# Altium integrated library Motorola Microcontroller 32-Bit.IntLib: 337 symbols (part 24 of 29)
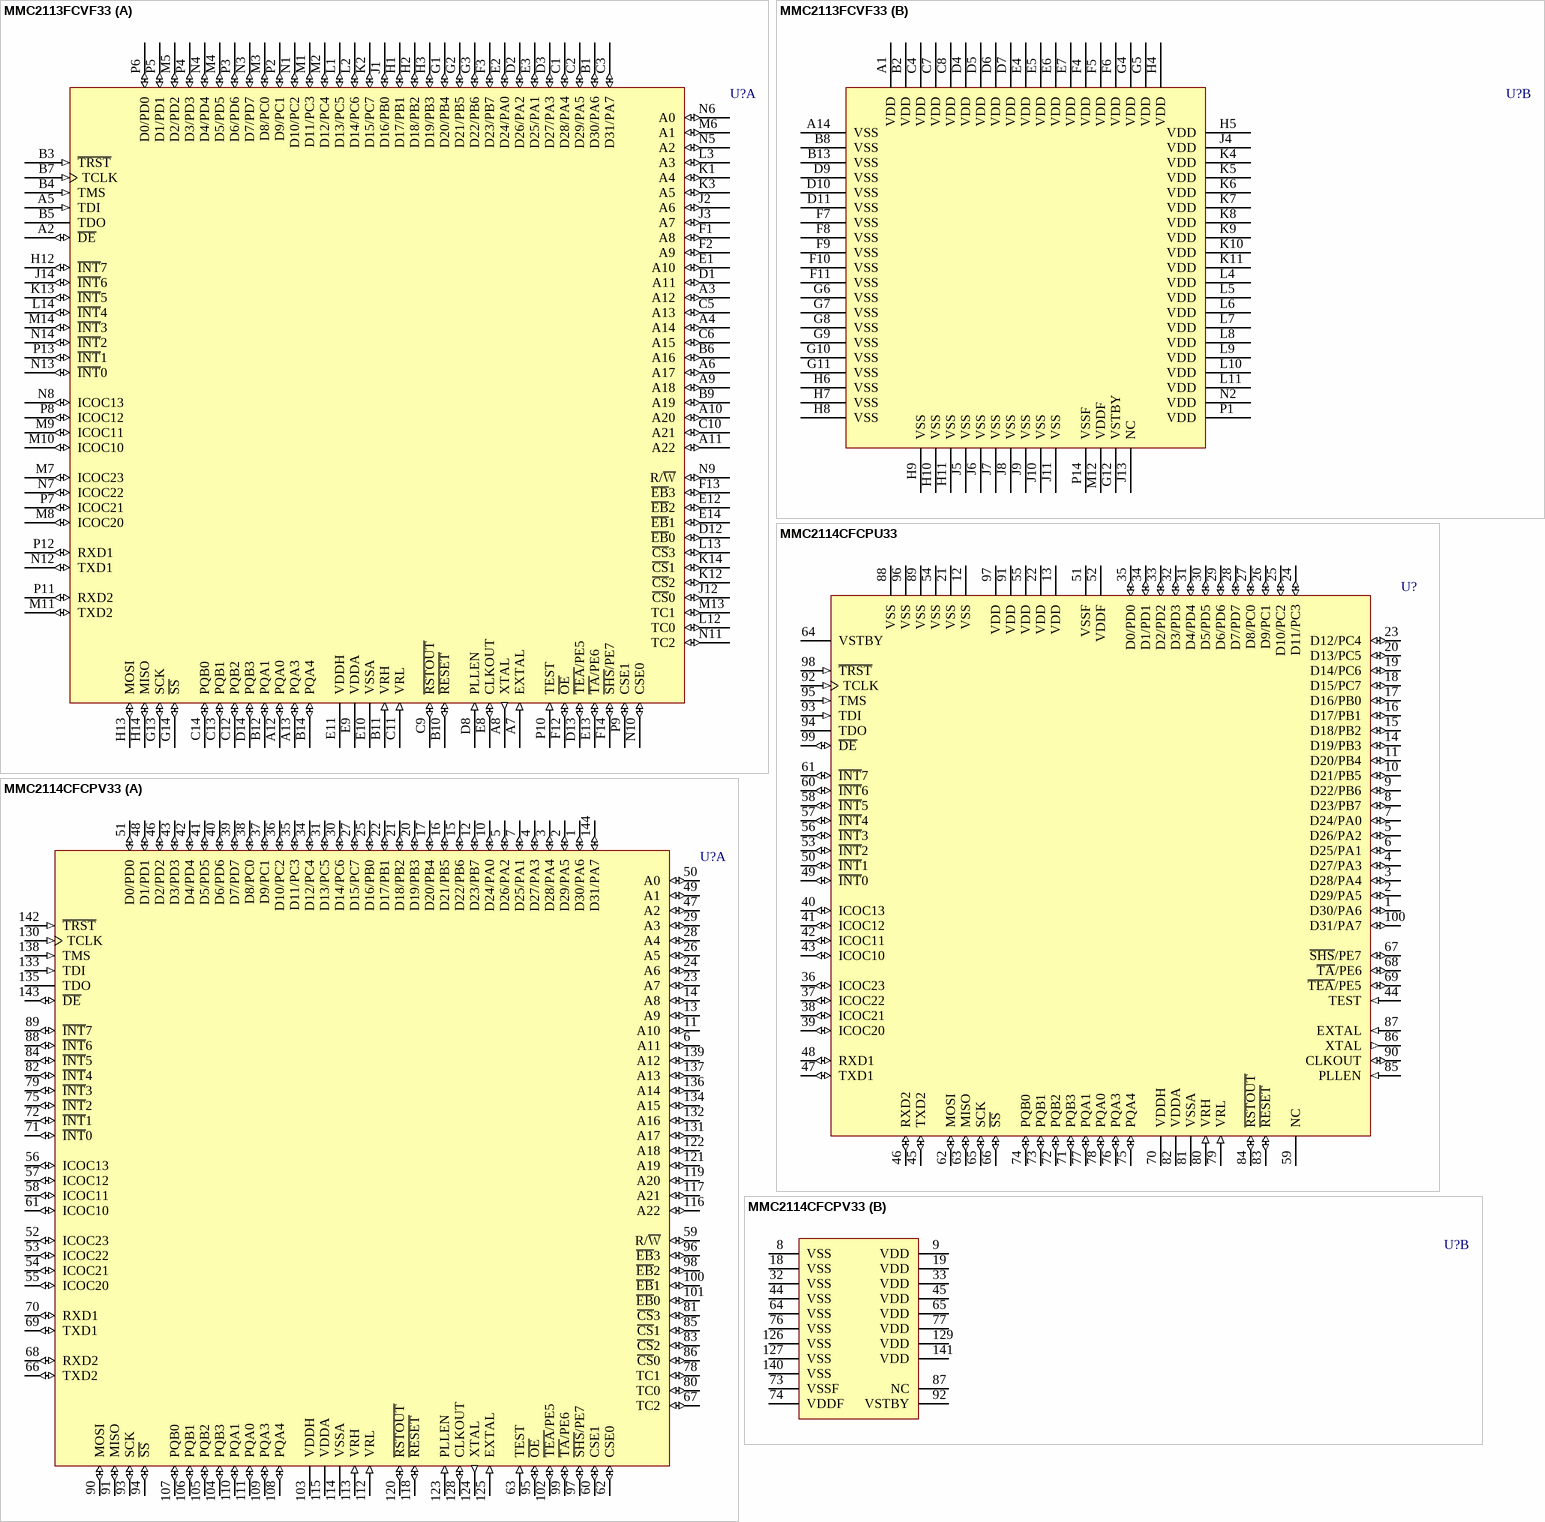
[diagram p262: symbols MMC2113FCVF33 to MMC2114CFCPV33]

## MMC2114CFCPU33
designator U?
32-Bit Microcontroller; Published: 21-Mar-2003; LatestRevisionDate: 13-Apr-2006; LatestRevisionNote: IPC-7351 Footprint Added.; DatasheetVersion: 18-Apr-2002; PackageVersion: rev3.1, Nov-2000; PackageReference: 983-02; Publisher: Altium Limited; PackageDescription: 100-Pin Shrink Quad Flat Pack 0.5 mm Pitch; Code_IPC: SQFP50P1600X1600-100; ComponentLink1Description: Manufacturer Link; ComponentLink1URL: http://www.freescale.com/; ComponentLink2Description: Datasheet; ComponentLink2URL: http://www.freescale.com/files/32bit/doc/ref_manual/MMC2114.pdf
footprint 983-02_N (Shrink QFP, 100-Leads, Body 14x14mm, Pitch 0.5mm, IPC Medium Density)
footprint 983-02_L (Shrink QFP, 100-Leads, Body 14x14mm, Pitch 0.5mm, IPC High Density)
footprint 983-02_M (Shrink QFP, 100-Leads, Body 14x14mm, Pitch 0.5mm, IPC Low Density)
3D model MMC2114-983 (100-Pin Shrink Quad Flat Pack 0.5 mm Pitch)
pins: 1 D30/PA6 (io), 2 D29/PA5 (io), 3 D28/PA4 (io), 4 D27/PA3 (io), 5 D26/PA2 (io), 6 D25/PA1 (io), 7 D24/PA0 (io), 8 D23/PB7 (io), 9 D22/PB6 (io), 10 D21/PB5 (io), 11 D20/PB4 (io), 12 VSS (power), 13 VDD (power), 14 D19/PB3 (io), 15 D18/PB2 (io), 16 D17/PB1 (io), 17 D16/PB0 (io), 18 D15/PC7 (io), 19 D14/PC6 (io), 20 D13/PC5 (io), 21 VSS (power), 22 VDD (power), 23 D12/PC4 (io), 24 D11/PC3 (io), 25 D10/PC2 (io), 26 D9/PC1 (io), 27 D8/PC0 (io), 28 D7/PD7 (io), 29 D6/PD6 (io), 30 D5/PD5 (io), 31 D4/PD4 (io), 32 D3/PD3 (io), 33 D2/PD2 (io), 34 D1/PD1 (io), 35 D0/PD0 (io), 36 ICOC23 (io), 37 ICOC22 (io), 38 ICOC21 (io), 39 ICOC20 (io), 40 ICOC13 (io), 41 ICOC12 (io), 42 ICOC11 (io), 43 ICOC10 (io), 44 TEST (in), 45 TXD2 (io), 46 RXD2 (io), 47 TXD1 (io), 48 RXD1 (io), 49 ~{INT}0 (io), 50 ~{INT}1 (io), 51 VSSF (power), 52 VDDF (power), 53 ~{INT}2 (io), 54 VSS (power), 55 VDD (power), 56 ~{INT}3 (io), 57 ~{INT}4 (io), 58 ~{INT}5 (io), 59 NC, 60 ~{INT}6 (io), 61 ~{INT}7 (io), 62 MOSI (io), 63 MISO (io), 64 VSTBY (power), 65 SCK (io), 66 ~{SS} (io), 67 ~{SHS}/PE7 (io), 68 ~{TA}/PE6 (io), 69 ~{TEA}/PE5 (io), 70 VDDH (power), 71 PQB3 (io), 72 PQB2 (io), 73 PQB1 (io), 74 PQB0 (io), 75 PQA4 (io), 76 PQA3 (io), 77 PQA1 (io), 78 PQA0 (io), 79 VRL (in), 80 VRH (in), 81 VSSA (power), 82 VDDA (power), 83 ~{RESET} (io), 84 ~{RSTOUT} (io), 85 PLLEN (in), 86 XTAL (out), 87 EXTAL (in), 88 VSS (power), 89 VSS (power), 90 CLKOUT (io), 91 VDD (power), 92 TCLK (in), 93 TDI (in), 94 TDO (hiz), 95 TMS (in), 96 VSS (power), 97 VDD (power), 98 ~{TRST} (in), 99 ~{DE} (io), 100 D31/PA7 (io)

## MMC2114CFCPV33
designator U?
32-Bit Microcontroller; Published: 21-Mar-2003; LatestRevisionDate: 13-Apr-2006; LatestRevisionNote: IPC-7351 Footprint Added.; DatasheetVersion: 18-Apr-2002; PackageVersion: rev7, Jan-2002; PackageReference: 918-03; Publisher: Altium Limited; PackageDescription: 144-Pin Thin Quad Flat Pack 0.5 mm Pitch; ComponentLink1Description: Manufacturer Link; ComponentLink1URL: http://www.freescale.com/; ComponentLink2Description: Datasheet; ComponentLink2URL: http://www.freescale.com/files/32bit/doc/ref_manual/MMC2114.pdf
footprint 918-03_N (Thin QFP, 144-Leads, Body 20x20mm, Pitch 0.5mm, IPC Medium Density)
footprint 918-03_L (Thin QFP, 144-Leads, Body 20x20mm, Pitch 0.5mm, IPC High Density)
footprint 918-03_M (Thin QFP, 144-Leads, Body 20x20mm, Pitch 0.5mm, IPC Low Density)
3D model MMC2114-918 (144-Pin Thin Quad Flat Pack 0.5 mm Pitch)
part A pins: 1 D30/PA6 (io), 2 D29/PA5 (io), 3 D28/PA4 (io), 4 D27/PA3 (io), 5 D26/PA2 (io), 6 A11 (io), 7 D25/PA1 (io), 10 D24/PA0 (io), 11 A10 (io), 12 D23/PB7 (io), 13 A9 (io), 14 A8 (io), 15 D22/PB6 (io), 16 D21/PB5 (io), 17 D20/PB4 (io), 20 D19/PB3 (io), 21 D18/PB2 (io), 22 D17/PB1 (io), 23 A7 (io), 24 A6 (io), 25 D16/PB0 (io), 26 A5 (io), 27 D15/PC7 (io), 28 A4 (io), 29 A3 (io), 30 D14/PC6 (io), 31 D13/PC5 (io), 34 D12/PC4 (io), 35 D11/PC3 (io), 36 D10/PC2 (io), 37 D9/PC1 (io), 38 D8/PC0 (io), 39 D7/PD7 (io), 40 D6/PD6 (io), 41 D5/PD5 (io), 42 D4/PD4 (io), 43 D3/PD3 (io), 46 D2/PD2 (io), 47 A2 (io), 48 D1/PD1 (io), 49 A1 (io), 50 A0 (io), 51 D0/PD0 (io), 52 ICOC23 (io), 53 ICOC22 (io), 54 ICOC21 (io), 55 ICOC20 (io), 56 ICOC13 (io), 57 ICOC12 (io), 58 ICOC11 (io), 59 R/~{W} (io), 60 CSE1 (io), 61 ICOC10 (io), 62 CSE0 (io), 63 TEST (in), 66 TXD2 (io), 67 TC2 (io), 68 RXD2 (io), 69 TXD1 (io), 70 RXD1 (io), 71 ~{INT}0 (io), 72 ~{INT}1 (io), 75 ~{INT}2 (io), 78 TC1 (io), 79 ~{INT}3 (io), 80 TC0 (io), 81 ~{CS}3 (io), 82 ~{INT}4 (io), 83 ~{CS}2 (io), 84 ~{INT}5 (io), 85 ~{CS}1 (io), 86 ~{CS}0 (io), 88 ~{INT}6 (io), 89 ~{INT}7 (io), 90 MOSI (io), 91 MISO (io), 93 SCK (io), 94 ~{SS} (io), 95 ~{OE} (io), 96 ~{EB}3 (io), 97 ~{SHS}/PE7 (io), 98 ~{EB}2 (io), 99 ~{TA}/PE6 (io), 100 ~{EB}1 (io), 101 ~{EB}0 (io), 102 ~{TEA}/PE5 (io), 103 VDDH (power), 104 PQB3 (io), 105 PQB2 (io), 106 PQB1 (io), 107 PQB0 (io), 108 PQA4 (io), 109 PQA3 (io), 110 PQA1 (io), 111 PQA0 (io), 112 VRL (in), 113 VRH (in), 114 VSSA (power), 115 VDDA (power), 116 A22 (io), 117 A21 (io), 118 ~{RESET} (io), 119 A20 (io), 120 ~{RSTOUT} (io), 121 A19 (io), 122 A18 (io), 123 PLLEN (in), 124 XTAL (out), 125 EXTAL (in), 128 CLKOUT (io), 130 TCLK (in), 131 A17 (io), 132 A16 (io), 133 TDI (in), 134 A15 (io), 135 TDO (hiz), 136 A14 (io), 137 A13 (io), 138 TMS (in), 139 A12 (io), 142 ~{TRST} (in), 143 ~{DE} (io), 144 D31/PA7 (io)
part B pins: 8 VSS (power), 9 VDD (power), 18 VSS (power), 19 VDD (power), 32 VSS (power), 33 VDD (power), 44 VSS (power), 45 VDD (power), 64 VSS (power), 65 VDD (power), 73 VSSF (power), 74 VDDF (power), 76 VSS (power), 77 VDD (power), 87 NC, 92 VSTBY (power), 126 VSS (power), 127 VSS (power), 129 VDD (power), 140 VSS (power), 141 VDD (power)

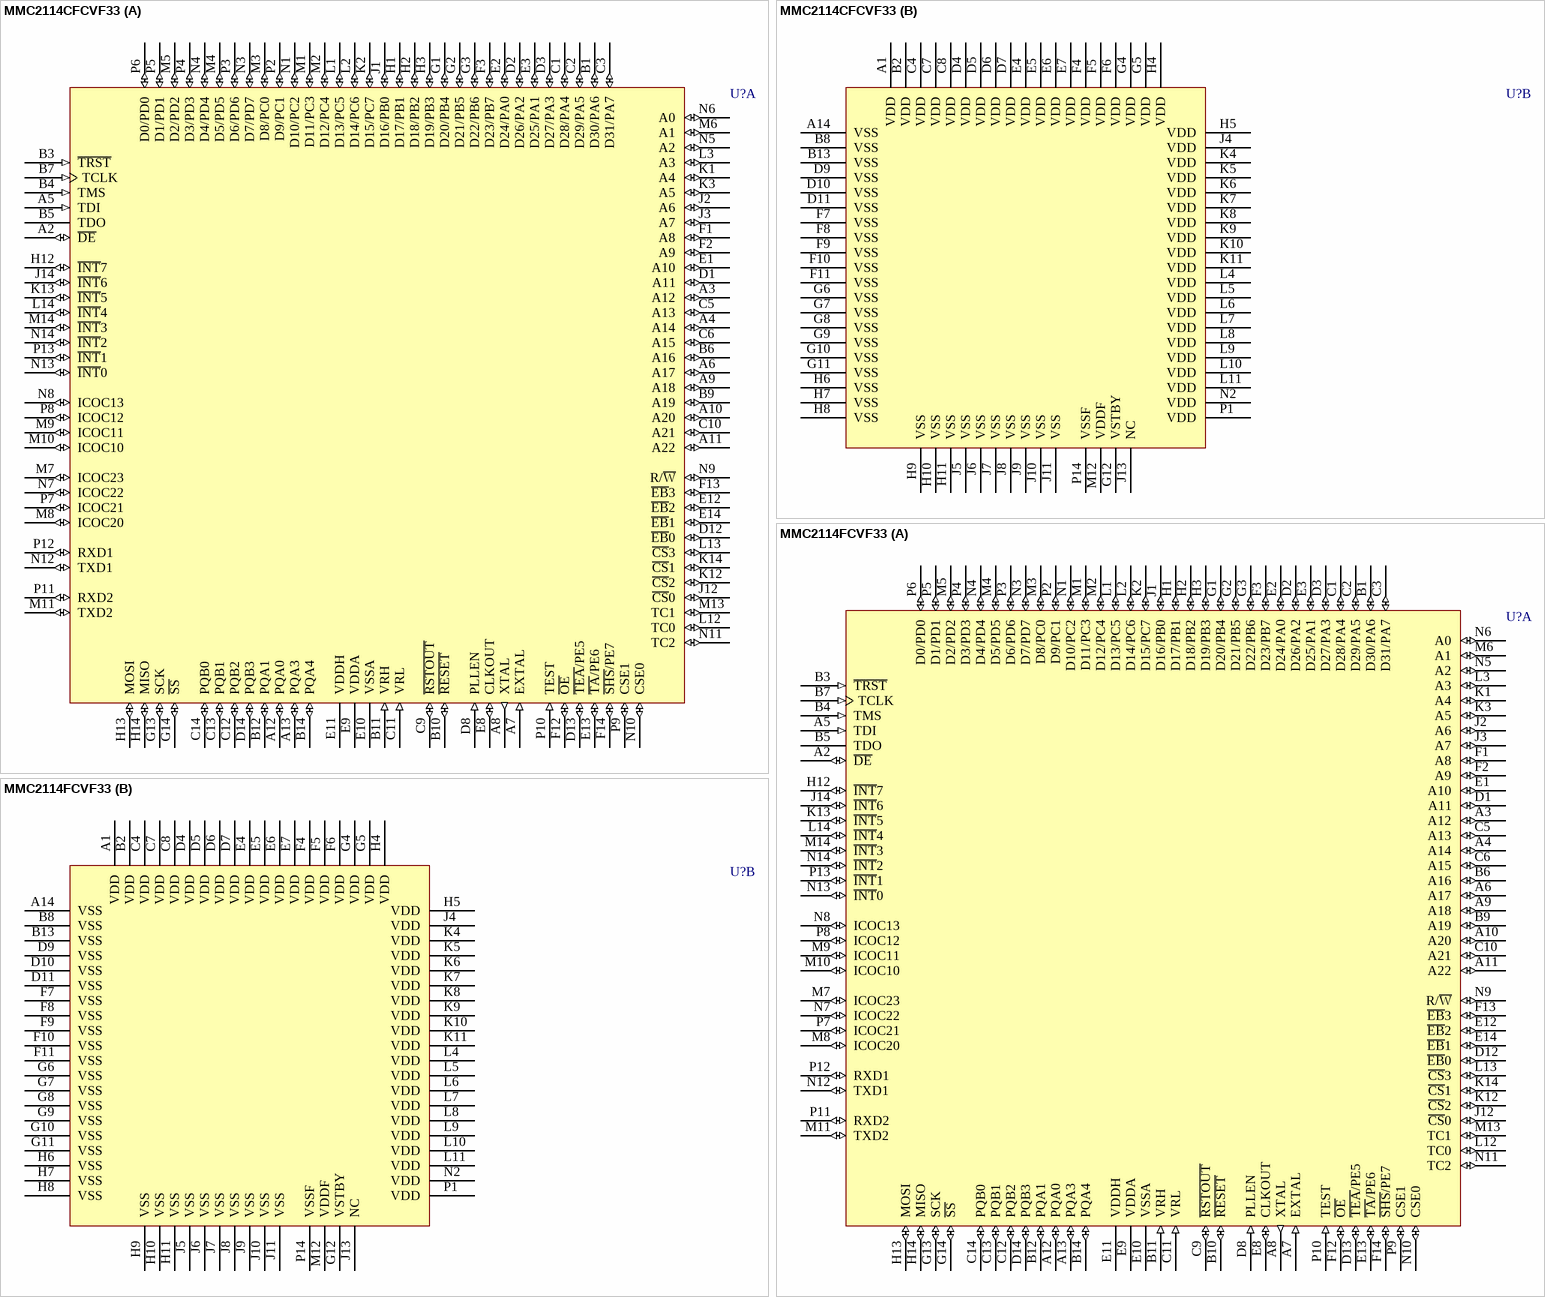
[diagram p197: symbols MMC2114CFCVF33 to MMC2114FCVF33]

## MMC2114CFCVF33
designator U?
32-Bit Microcontroller; Published: 21-Mar-2003; LatestRevisionDate: 13-Apr-2006; LatestRevisionNote: IPC-7351 Footprint Added.; DatasheetVersion: 18-Apr-2002; PackageVersion: rev1.0, Apr-2002; PackageReference: 1128C-02; Publisher: Altium Limited; PackageDescription: 196-Ball MAP-Ball Grid Array 1 mm Pitch; ComponentLink1Description: Manufacturer Link; ComponentLink1URL: http://www.freescale.com/; ComponentLink2Description: Datasheet; ComponentLink2URL: http://www.freescale.com/files/32bit/doc/ref_manual/MMC2114.pdf
footprint 1128C-02 (BGA, 196-Leads, Body 15x15mm, Pitch 1mm)
3D model MMC2114-1128C-02 (196-Ball MAP-Ball Grid Array 1 mm Pitch)
part A pins: A2 ~{DE} (io), A3 A12 (io), A4 A14 (io), A5 TDI (in), A6 A17 (io), A7 EXTAL (in), A8 XTAL (out), A9 A18 (io), A10 A20 (io), A11 A22 (io), A12 PQA0 (io), A13 PQA3 (io), B1 D30/PA6 (io), B3 ~{TRST} (in), B4 TMS (in), B5 TDO (hiz), B6 A16 (io), B7 TCLK (in), B9 A19 (io), B10 ~{RESET} (io), B11 VRH (in), B12 PQA1 (io), B14 PQA4 (io), C1 D28/PA4 (io), C2 D29/PA5 (io), C3 D31/PA7 (io), C5 A13 (io), C6 A15 (io), C9 ~{RSTOUT} (io), C10 A21 (io), C11 VRL (in), C12 PQB2 (io), C13 PQB1 (io), C14 PQB0 (io), D1 A11 (io), D2 D26/PA2 (io), D3 D27/PA3 (io), D8 PLLEN (in), D12 ~{EB}0 (io), D13 ~{TEA}/PE5 (io), D14 PQB3 (io), E1 A10 (io), E2 D24/PA0 (io), E3 D25/PA1 (io), E8 CLKOUT (io), E9 VDDA (power), E10 VSSA (power), E11 VDDH (power), E12 ~{EB}2 (io), E13 ~{TA}/PE6 (io), E14 ~{EB}1 (io), F1 A8 (io), F2 A9 (io), F3 D23/PB7 (io), F12 ~{OE} (io), F13 ~{EB}3 (io), F14 ~{SHS}/PE7 (io), G1 D20/PB4 (io), G2 D21/PB5 (io), G3 D22/PB6 (io), G13 SCK (io), G14 ~{SS} (io), H1 D17/PB1 (io), H2 D18/PB2 (io), H3 D19/PB3 (io), H12 ~{INT}7 (io), H13 MOSI (io), H14 MISO (io), J1 D16/PB0 (io), J2 A6 (io), J3 A7 (io), J12 ~{CS}0 (io), J14 ~{INT}6 (io), K1 A4 (io), K2 D15/PC7 (io), K3 A5 (io), K12 ~{CS}2 (io), K13 ~{INT}5 (io), K14 ~{CS}1 (io), L1 D13/PC5 (io), L2 D14/PC6 (io), L3 A3 (io), L12 TC0 (io), L13 ~{CS}3 (io), L14 ~{INT}4 (io), M1 D11/PC3 (io), M2 D12/PC4 (io), M3 D8/PC0 (io), M4 D5/PD5 (io), M5 D2/PD2 (io), M6 A1 (io), M7 ICOC23 (io), M8 ICOC20 (io), M9 ICOC11 (io), M10 ICOC10 (io), M11 TXD2 (io), M13 TC1 (io), M14 ~{INT}3 (io), N1 D10/PC2 (io), N3 D7/PD7 (io), N4 D4/PD4 (io), N5 A2 (io), N6 A0 (io), N7 ICOC22 (io), N8 ICOC13 (io), N9 R/~{W} (io), N10 CSE0 (io), N11 TC2 (io), N12 TXD1 (io), N13 ~{INT}0 (io), N14 ~{INT}2 (io), P2 D9/PC1 (io), P3 D6/PD6 (io), P4 D3/PD3 (io), P5 D1/PD1 (io), P6 D0/PD0 (io), P7 ICOC21 (io), P8 ICOC12 (io), P9 CSE1 (io), P10 TEST (in), P11 RXD2 (io), P12 RXD1 (io), P13 ~{INT}1 (io)
part B pins: A1 VDD (power), A14 VSS (power), B2 VDD (power), B8 VSS (power), B13 VSS (power), C4 VDD (power), C7 VDD (power), C8 VDD (power), D4 VDD (power), D5 VDD (power), D6 VDD (power), D7 VDD (power), D9 VSS (power), D10 VSS (power), D11 VSS (power), E4 VDD (power), E5 VDD (power), E6 VDD (power), E7 VDD (power), F4 VDD (power), F5 VDD (power), F6 VDD (power), F7 VSS (power), F8 VSS (power), F9 VSS (power), F10 VSS (power), F11 VSS (power), G4 VDD (power), G5 VDD (power), G6 VSS (power), G7 VSS (power), G8 VSS (power), G9 VSS (power), G10 VSS (power), G11 VSS (power), G12 VSTBY (power), H4 VDD (power), H5 VDD (power), H6 VSS (power), H7 VSS (power), H8 VSS (power), H9 VSS (power), H10 VSS (power), H11 VSS (power), J4 VDD (power), J5 VSS (power), J6 VSS (power), J7 VSS (power), J8 VSS (power), J9 VSS (power), J10 VSS (power), J11 VSS (power), J13 NC, K4 VDD (power), K5 VDD (power), K6 VDD (power), K7 VDD (power), K8 VDD (power), K9 VDD (power), K10 VDD (power), K11 VDD (power), L4 VDD (power), L5 VDD (power), L6 VDD (power), L7 VDD (power), L8 VDD (power), L9 VDD (power), L10 VDD (power), L11 VDD (power), M12 VDDF (power), N2 VDD (power), P1 VDD (power), P14 VSSF (power)

## MMC2114FCVF33
designator U?
32-Bit Microcontroller; Published: 21-Mar-2003; LatestRevisionDate: 13-Apr-2006; LatestRevisionNote: IPC-7351 Footprint Added.; DatasheetVersion: 18-Apr-2002; PackageVersion: rev1.0, Apr-2002; PackageReference: 1128C-02; Publisher: Altium Limited; PackageDescription: 196-Ball MAP-Ball Grid Array 1 mm Pitch; ComponentLink1Description: Manufacturer Link; ComponentLink1URL: http://www.freescale.com/; ComponentLink2Description: Datasheet; ComponentLink2URL: http://www.freescale.com/files/32bit/doc/ref_manual/MMC2114.pdf
footprint 1128C-02 (BGA, 196-Leads, Body 15x15mm, Pitch 1mm)
3D model MMC2114-1128C-02 (196-Ball MAP-Ball Grid Array 1 mm Pitch)
part A pins: A2 ~{DE} (io), A3 A12 (io), A4 A14 (io), A5 TDI (in), A6 A17 (io), A7 EXTAL (in), A8 XTAL (out), A9 A18 (io), A10 A20 (io), A11 A22 (io), A12 PQA0 (io), A13 PQA3 (io), B1 D30/PA6 (io), B3 ~{TRST} (in), B4 TMS (in), B5 TDO (hiz), B6 A16 (io), B7 TCLK (in), B9 A19 (io), B10 ~{RESET} (io), B11 VRH (in), B12 PQA1 (io), B14 PQA4 (io), C1 D28/PA4 (io), C2 D29/PA5 (io), C3 D31/PA7 (io), C5 A13 (io), C6 A15 (io), C9 ~{RSTOUT} (io), C10 A21 (io), C11 VRL (in), C12 PQB2 (io), C13 PQB1 (io), C14 PQB0 (io), D1 A11 (io), D2 D26/PA2 (io), D3 D27/PA3 (io), D8 PLLEN (in), D12 ~{EB}0 (io), D13 ~{TEA}/PE5 (io), D14 PQB3 (io), E1 A10 (io), E2 D24/PA0 (io), E3 D25/PA1 (io), E8 CLKOUT (io), E9 VDDA (power), E10 VSSA (power), E11 VDDH (power), E12 ~{EB}2 (io), E13 ~{TA}/PE6 (io), E14 ~{EB}1 (io), F1 A8 (io), F2 A9 (io), F3 D23/PB7 (io), F12 ~{OE} (io), F13 ~{EB}3 (io), F14 ~{SHS}/PE7 (io), G1 D20/PB4 (io), G2 D21/PB5 (io), G3 D22/PB6 (io), G13 SCK (io), G14 ~{SS} (io), H1 D17/PB1 (io), H2 D18/PB2 (io), H3 D19/PB3 (io), H12 ~{INT}7 (io), H13 MOSI (io), H14 MISO (io), J1 D16/PB0 (io), J2 A6 (io), J3 A7 (io), J12 ~{CS}0 (io), J14 ~{INT}6 (io), K1 A4 (io), K2 D15/PC7 (io), K3 A5 (io), K12 ~{CS}2 (io), K13 ~{INT}5 (io), K14 ~{CS}1 (io), L1 D13/PC5 (io), L2 D14/PC6 (io), L3 A3 (io), L12 TC0 (io), L13 ~{CS}3 (io), L14 ~{INT}4 (io), M1 D11/PC3 (io), M2 D12/PC4 (io), M3 D8/PC0 (io), M4 D5/PD5 (io), M5 D2/PD2 (io), M6 A1 (io), M7 ICOC23 (io), M8 ICOC20 (io), M9 ICOC11 (io), M10 ICOC10 (io), M11 TXD2 (io), M13 TC1 (io), M14 ~{INT}3 (io), N1 D10/PC2 (io), N3 D7/PD7 (io), N4 D4/PD4 (io), N5 A2 (io), N6 A0 (io), N7 ICOC22 (io), N8 ICOC13 (io), N9 R/~{W} (io), N10 CSE0 (io), N11 TC2 (io), N12 TXD1 (io), N13 ~{INT}0 (io), N14 ~{INT}2 (io), P2 D9/PC1 (io), P3 D6/PD6 (io), P4 D3/PD3 (io), P5 D1/PD1 (io), P6 D0/PD0 (io), P7 ICOC21 (io), P8 ICOC12 (io), P9 CSE1 (io), P10 TEST (in), P11 RXD2 (io), P12 RXD1 (io), P13 ~{INT}1 (io)
part B pins: A1 VDD (power), A14 VSS (power), B2 VDD (power), B8 VSS (power), B13 VSS (power), C4 VDD (power), C7 VDD (power), C8 VDD (power), D4 VDD (power), D5 VDD (power), D6 VDD (power), D7 VDD (power), D9 VSS (power), D10 VSS (power), D11 VSS (power), E4 VDD (power), E5 VDD (power), E6 VDD (power), E7 VDD (power), F4 VDD (power), F5 VDD (power), F6 VDD (power), F7 VSS (power), F8 VSS (power), F9 VSS (power), F10 VSS (power), F11 VSS (power), G4 VDD (power), G5 VDD (power), G6 VSS (power), G7 VSS (power), G8 VSS (power), G9 VSS (power), G10 VSS (power), G11 VSS (power), G12 VSTBY (power), H4 VDD (power), H5 VDD (power), H6 VSS (power), H7 VSS (power), H8 VSS (power), H9 VSS (power), H10 VSS (power), H11 VSS (power), J4 VDD (power), J5 VSS (power), J6 VSS (power), J7 VSS (power), J8 VSS (power), J9 VSS (power), J10 VSS (power), J11 VSS (power), J13 NC, K4 VDD (power), K5 VDD (power), K6 VDD (power), K7 VDD (power), K8 VDD (power), K9 VDD (power), K10 VDD (power), K11 VDD (power), L4 VDD (power), L5 VDD (power), L6 VDD (power), L7 VDD (power), L8 VDD (power), L9 VDD (power), L10 VDD (power), L11 VDD (power), M12 VDDF (power), N2 VDD (power), P1 VDD (power), P14 VSSF (power)

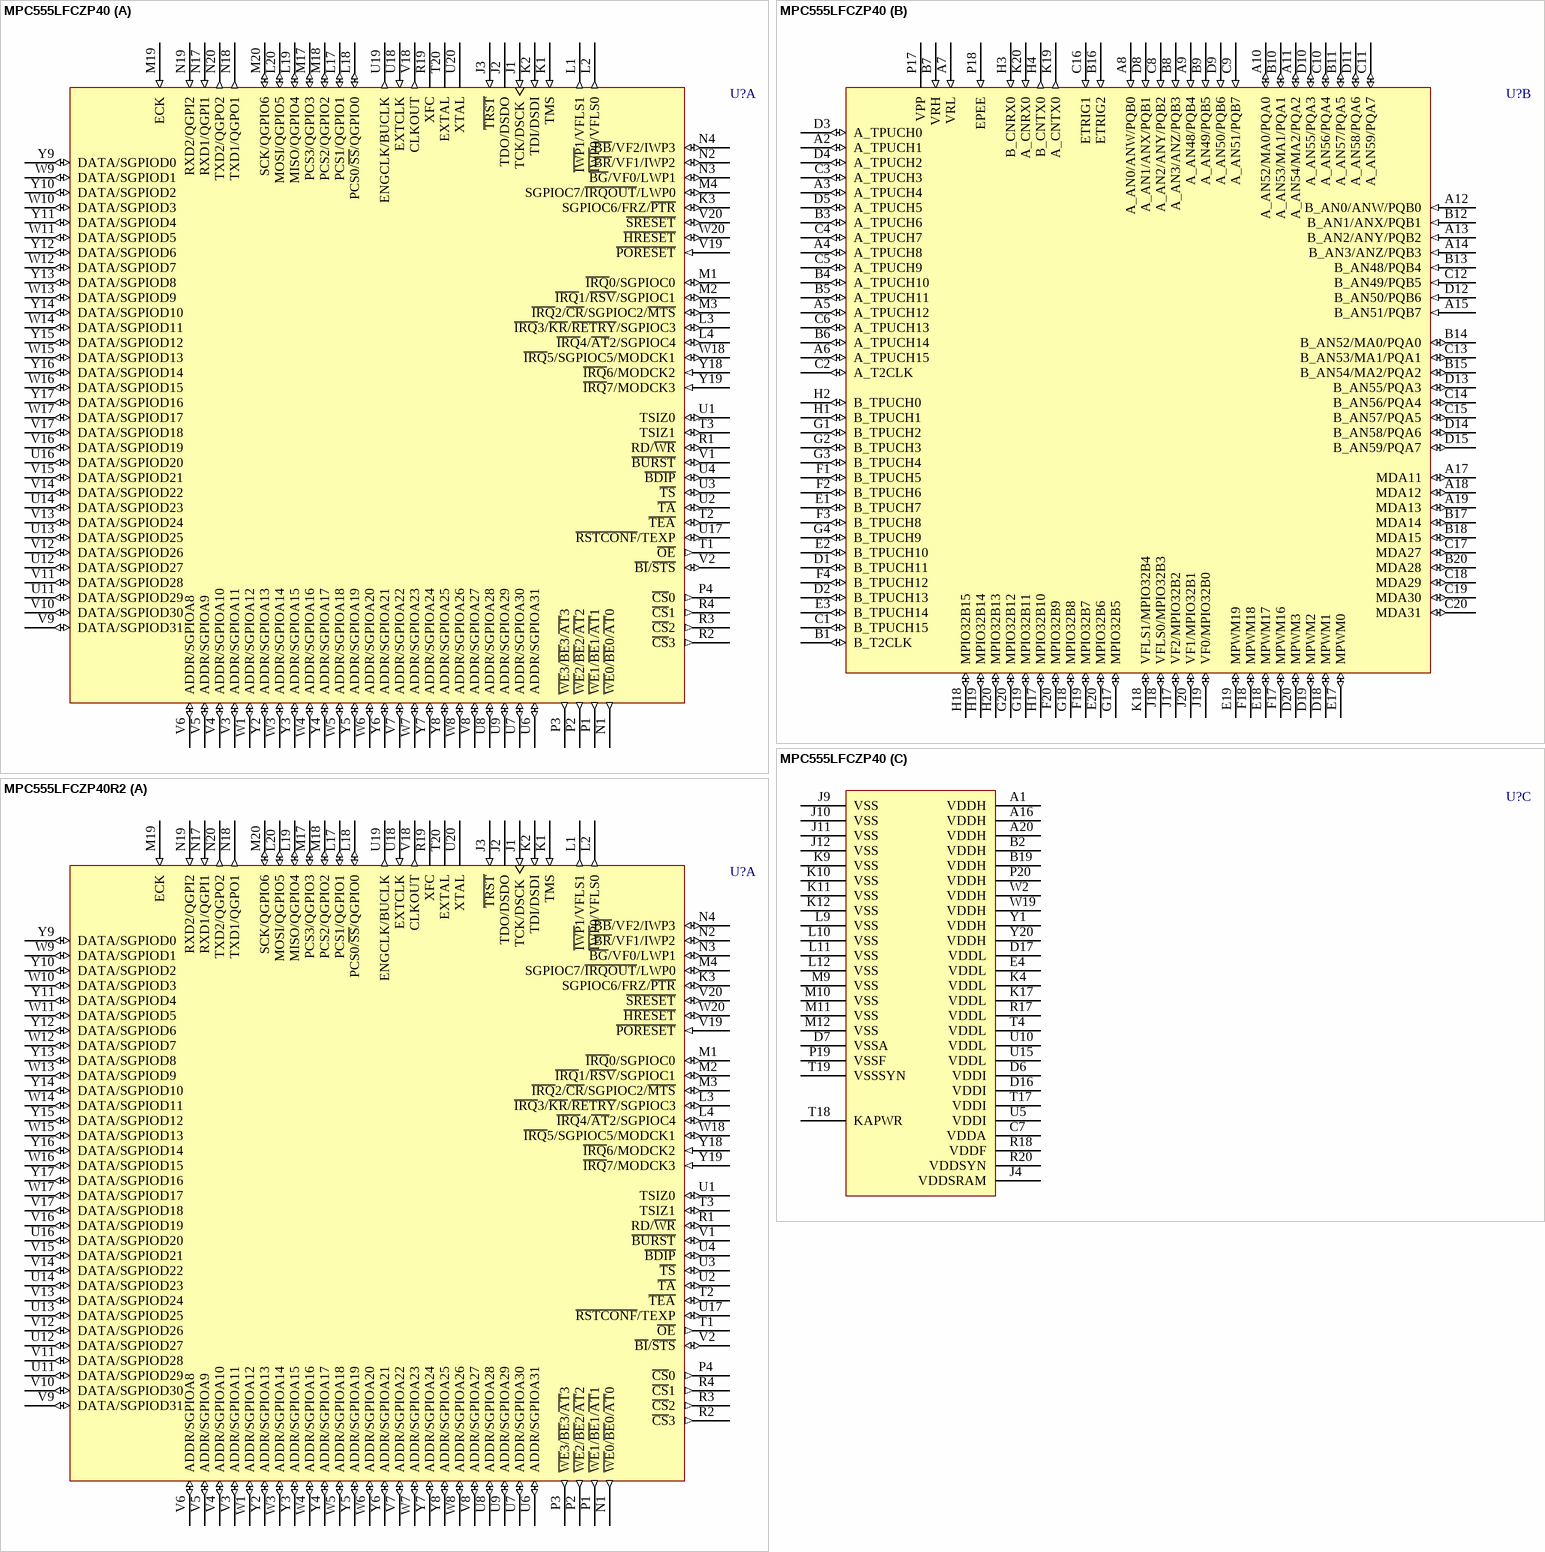
[diagram p198: symbols MPC555LFCZP40 to MPC555LFCZP40R2]

## MPC555LFCZP40
designator U?
32-Bit Microcontroller; Published: 21-Mar-2003; LatestRevisionDate: 13-Apr-2006; LatestRevisionNote: IPC-7351 Footprint Added.; DatasheetVersion: 15-Oct-2000; PackageVersion: Oct-2000; PackageReference: 1135A-01; Publisher: Altium Limited; PackageDescription: 272-Ball Ball Grid Array 1.27 mm Pitch; ComponentLink1Description: Manufacturer Link; ComponentLink1URL: http://www.freescale.com/
footprint 1135A-01 (BGA, 272-Leads, Body 27x27mm, Pitch 1.27mm)
3D model MPC555-1135A-01 (272-Ball Ball Grid Array 1.27 mm Pitch)
part A pins: J1 TCK/DSCK (in), J2 TDO/DSDO (hiz), J3 ~{TRST} (in), K1 TMS (in), K2 TDI/DSDI (in), K3 SGPIOC6/FRZ/~{PTR} (io), L1 ~{IWP}1/VFLS1 (out), L2 ~{IWP}0/VFLS0 (out), L3 ~{IRQ}3/~{KR}/~{RETRY}/SGPIOC3 (io), L4 ~{IRQ}4/~{AT}2/SGPIOC4 (io), L17 PCS1/QGPIO1 (io), L18 PCS0/~{SS}/QGPIO0 (io), L19 MISO/QGPIO4 (io), L20 MOSI/QGPIO5 (io), M1 ~{IRQ}0/SGPIOC0 (io), M2 ~{IRQ}1/~{RSV}/SGPIOC1 (io), M3 ~{IRQ}2/~{CR}/SGPIOC2/~{MTS} (io), M4 SGPIOC7/~{IRQOUT}/LWP0 (io), M17 PCS3/QGPIO3 (io), M18 PCS2/QGPIO2 (io), M19 ECK (in), M20 SCK/QGPIO6 (io), N1 ~{WE}0/~{BE}0/~{AT}0 (out), N2 ~{BR}/VF1/IWP2 (io), N3 ~{BG}/VF0/LWP1 (io), N4 ~{BB}/VF2/IWP3 (io), N17 RXD1/QGPI1 (in), N18 TXD1/QGPO1 (out), N19 RXD2/QGPI2 (in), N20 TXD2/QGPO2 (out), P1 ~{WE}1/~{BE}1/~{AT}1 (out), P2 ~{WE}2/~{BE}2/~{AT}2 (out), P3 ~{WE}3/~{BE}3/~{AT}3 (out), P4 ~{CS}0 (out), R1 RD/~{WR} (io), R2 ~{CS}3 (out), R3 ~{CS}2 (out), R4 ~{CS}1 (out), R19 XFC, T1 ~{OE} (out), T2 ~{TEA} (io), T3 TSIZ1 (io), T20 EXTAL, U1 TSIZ0 (io), U2 ~{TA} (io), U3 ~{TS} (io), U4 ~{BDIP} (io), U6 ADDR/SGPIOA31 (io), U7 ADDR/SGPIOA30 (io), U8 ADDR/SGPIOA28 (io), U9 ADDR/SGPIOA29 (io), U11 DATA/SGPIOD29 (io), U12 DATA/SGPIOD27 (io), U13 DATA/SGPIOD25 (io), U14 DATA/SGPIOD23 (io), U16 DATA/SGPIOD20 (io), U17 ~{RSTCONF}/TEXP (io), U18 EXTCLK (in), U19 ENGCLK/BUCLK (out), U20 XTAL, V1 ~{BURST} (io), V2 ~{BI}/~{STS} (io), V3 ADDR/SGPIOA11 (io), V4 ADDR/SGPIOA10 (io), V5 ADDR/SGPIOA9 (io), V6 ADDR/SGPIOA8 (io), V7 ADDR/SGPIOA22 (io), V8 ADDR/SGPIOA27 (io), V9 DATA/SGPIOD31 (io), V10 DATA/SGPIOD30 (io), V11 DATA/SGPIOD28 (io), V12 DATA/SGPIOD26 (io), V13 DATA/SGPIOD24 (io), V14 DATA/SGPIOD22 (io), V15 DATA/SGPIOD21 (io), V16 DATA/SGPIOD19 (io), V17 DATA/SGPIOD18 (io), V18 CLKOUT (out), V19 ~{PORESET} (in), V20 ~{SRESET} (io), W1 ADDR/SGPIOA12 (io), W3 ADDR/SGPIOA14 (io), W4 ADDR/SGPIOA16 (io), W5 ADDR/SGPIOA18 (io), W6 ADDR/SGPIOA20 (io), W7 ADDR/SGPIOA23 (io), W8 ADDR/SGPIOA26 (io), W9 DATA/SGPIOD1 (io), W10 DATA/SGPIOD3 (io), W11 DATA/SGPIOD5 (io), W12 DATA/SGPIOD7 (io), W13 DATA/SGPIOD9 (io), W14 DATA/SGPIOD11 (io), W15 DATA/SGPIOD13 (io), W16 DATA/SGPIOD15 (io), W17 DATA/SGPIOD17 (io), W18 ~{IRQ}5/SGPIOC5/MODCK1 (io), W20 ~{HRESET} (io), Y2 ADDR/SGPIOA13 (io), Y3 ADDR/SGPIOA15 (io), Y4 ADDR/SGPIOA17 (io), Y5 ADDR/SGPIOA19 (io), Y6 ADDR/SGPIOA21 (io), Y7 ADDR/SGPIOA24 (io), Y8 ADDR/SGPIOA25 (io), Y9 DATA/SGPIOD0 (io), Y10 DATA/SGPIOD2 (io), Y11 DATA/SGPIOD4 (io), Y12 DATA/SGPIOD6 (io), Y13 DATA/SGPIOD8 (io), Y14 DATA/SGPIOD10 (io), Y15 DATA/SGPIOD12 (io), Y16 DATA/SGPIOD14 (io), Y17 DATA/SGPIOD16 (io), Y18 ~{IRQ}6/MODCK2 (in), Y19 ~{IRQ}7/MODCK3 (in)
part B pins: A2 A_TPUCH1 (io), A3 A_TPUCH4 (io), A4 A_TPUCH8 (io), A5 A_TPUCH12 (io), A6 A_TPUCH15 (io), A7 VRL (in), A8 A_AN0/ANW/PQB0 (in), A9 A_AN48/PQB4 (in), A10 A_AN52/MA0/PQA0 (io), A11 A_AN54/MA2/PQA2 (io), A12 B_AN0/ANW/PQB0 (in), A13 B_AN2/ANY/PQB2 (in), A14 B_AN3/ANZ/PQB3 (in), A15 B_AN51/PQB7 (in), A17 MDA11 (io), A18 MDA12 (io), A19 MDA13 (io), B1 B_T2CLK (io), B3 A_TPUCH6 (io), B4 A_TPUCH10 (io), B5 A_TPUCH11 (io), B6 A_TPUCH14 (io), B7 VRH (in), B8 A_AN3/ANZ/PQB3 (in), B9 A_AN49/PQB5 (in), B10 A_AN53/MA1/PQA1 (io), B11 A_AN57/PQA5 (io), B12 B_AN1/ANX/PQB1 (in), B13 B_AN48/PQB4 (in), B14 B_AN52/MA0/PQA0 (io), B15 B_AN54/MA2/PQA2 (io), B16 ETRIG2 (in), B17 MDA14 (io), B18 MDA15 (io), B20 MDA28 (io), C1 B_TPUCH15 (io), C2 A_T2CLK (io), C3 A_TPUCH3 (io), C4 A_TPUCH7 (io), C5 A_TPUCH9 (io), C6 A_TPUCH13 (io), C8 A_AN2/ANY/PQB2 (in), C9 A_AN51/PQB7 (in), C10 A_AN56/PQA4 (io), C11 A_AN59/PQA7 (io), C12 B_AN49/PQB5 (in), C13 B_AN53/MA1/PQA1 (io), C14 B_AN56/PQA4 (io), C15 B_AN57/PQA5 (io), C16 ETRIG1 (in), C17 MDA27 (io), C18 MDA29 (io), C19 MDA30 (io), C20 MDA31 (io), D1 B_TPUCH11 (io), D2 B_TPUCH13 (io), D3 A_TPUCH0 (io), D4 A_TPUCH2 (io), D5 A_TPUCH5 (io), D8 A_AN1/ANX/PQB1 (in), D9 A_AN50/PQB6 (in), D10 A_AN55/PQA3 (io), D11 A_AN58/PQA6 (io), D12 B_AN50/PQB6 (in), D13 B_AN55/PQA3 (io), D14 B_AN58/PQA6 (io), D15 B_AN59/PQA7 (io), D18 MPWM1 (io), D19 MPWM2 (io), D20 MPWM3 (io), E1 B_TPUCH7 (io), E2 B_TPUCH10 (io), E3 B_TPUCH14 (io), E17 MPWM0 (io), E18 MPWM17 (io), E19 MPWM19 (io), E20 MPIO32B6 (io), F1 B_TPUCH5 (io), F2 B_TPUCH6 (io), F3 B_TPUCH8 (io), F4 B_TPUCH12 (io), F17 MPWM16 (io), F18 MPWM18 (io), F19 MPIO32B7 (io), F20 MPIO32B9 (io), G1 B_TPUCH2 (io), G2 B_TPUCH3 (io), G3 B_TPUCH4 (io), G4 B_TPUCH9 (io), G17 MPIO32B5 (io), G18 MPIO32B8 (io), G19 MPIO32B11 (io), G20 MPIO32B12 (io), H1 B_TPUCH1 (io), H2 B_TPUCH0 (io), H3 B_CNRX0 (in), H4 B_CNTX0 (out), H17 MPIO32B10 (io), H18 MPIO32B15 (io), H19 MPIO32B14 (io), H20 MPIO32B13 (io), J17 VF2/MPIO32B2 (io), J18 VFLS0/MPIO32B3 (io), J19 VF0/MPIO32B0 (io), J20 VF1/MPIO32B1 (io), K18 VFLS1/MPIO32B4 (io), K19 A_CNTX0 (out), K20 A_CNRX0 (in), P17 VPP (power), P18 EPEE (in)
part C pins: A1 VDDH (power), A16 VDDH (power), A20 VDDH (power), B2 VDDH (power), B19 VDDH (power), C7 VDDA (power), D6 VDDI (power), D7 VSSA (power), D16 VDDI (power), D17 VDDL (power), E4 VDDL (power), J4 VDDSRAM (power), J9 VSS (power), J10 VSS (power), J11 VSS (power), J12 VSS (power), K4 VDDL (power), K9 VSS (power), K10 VSS (power), K11 VSS (power), K12 VSS (power), K17 VDDL (power), L9 VSS (power), L10 VSS (power), L11 VSS (power), L12 VSS (power), M9 VSS (power), M10 VSS (power), M11 VSS (power), M12 VSS (power), P19 VSSF (power), P20 VDDH (power), R17 VDDL (power), R18 VDDF (power), R20 VDDSYN (power), T4 VDDL (power), T17 VDDI (power), T18 KAPWR (power), T19 VSSSYN (power), U5 VDDI (power), U10 VDDL (power), U15 VDDL (power), W2 VDDH (power), W19 VDDH (power), Y1 VDDH (power), Y20 VDDH (power)

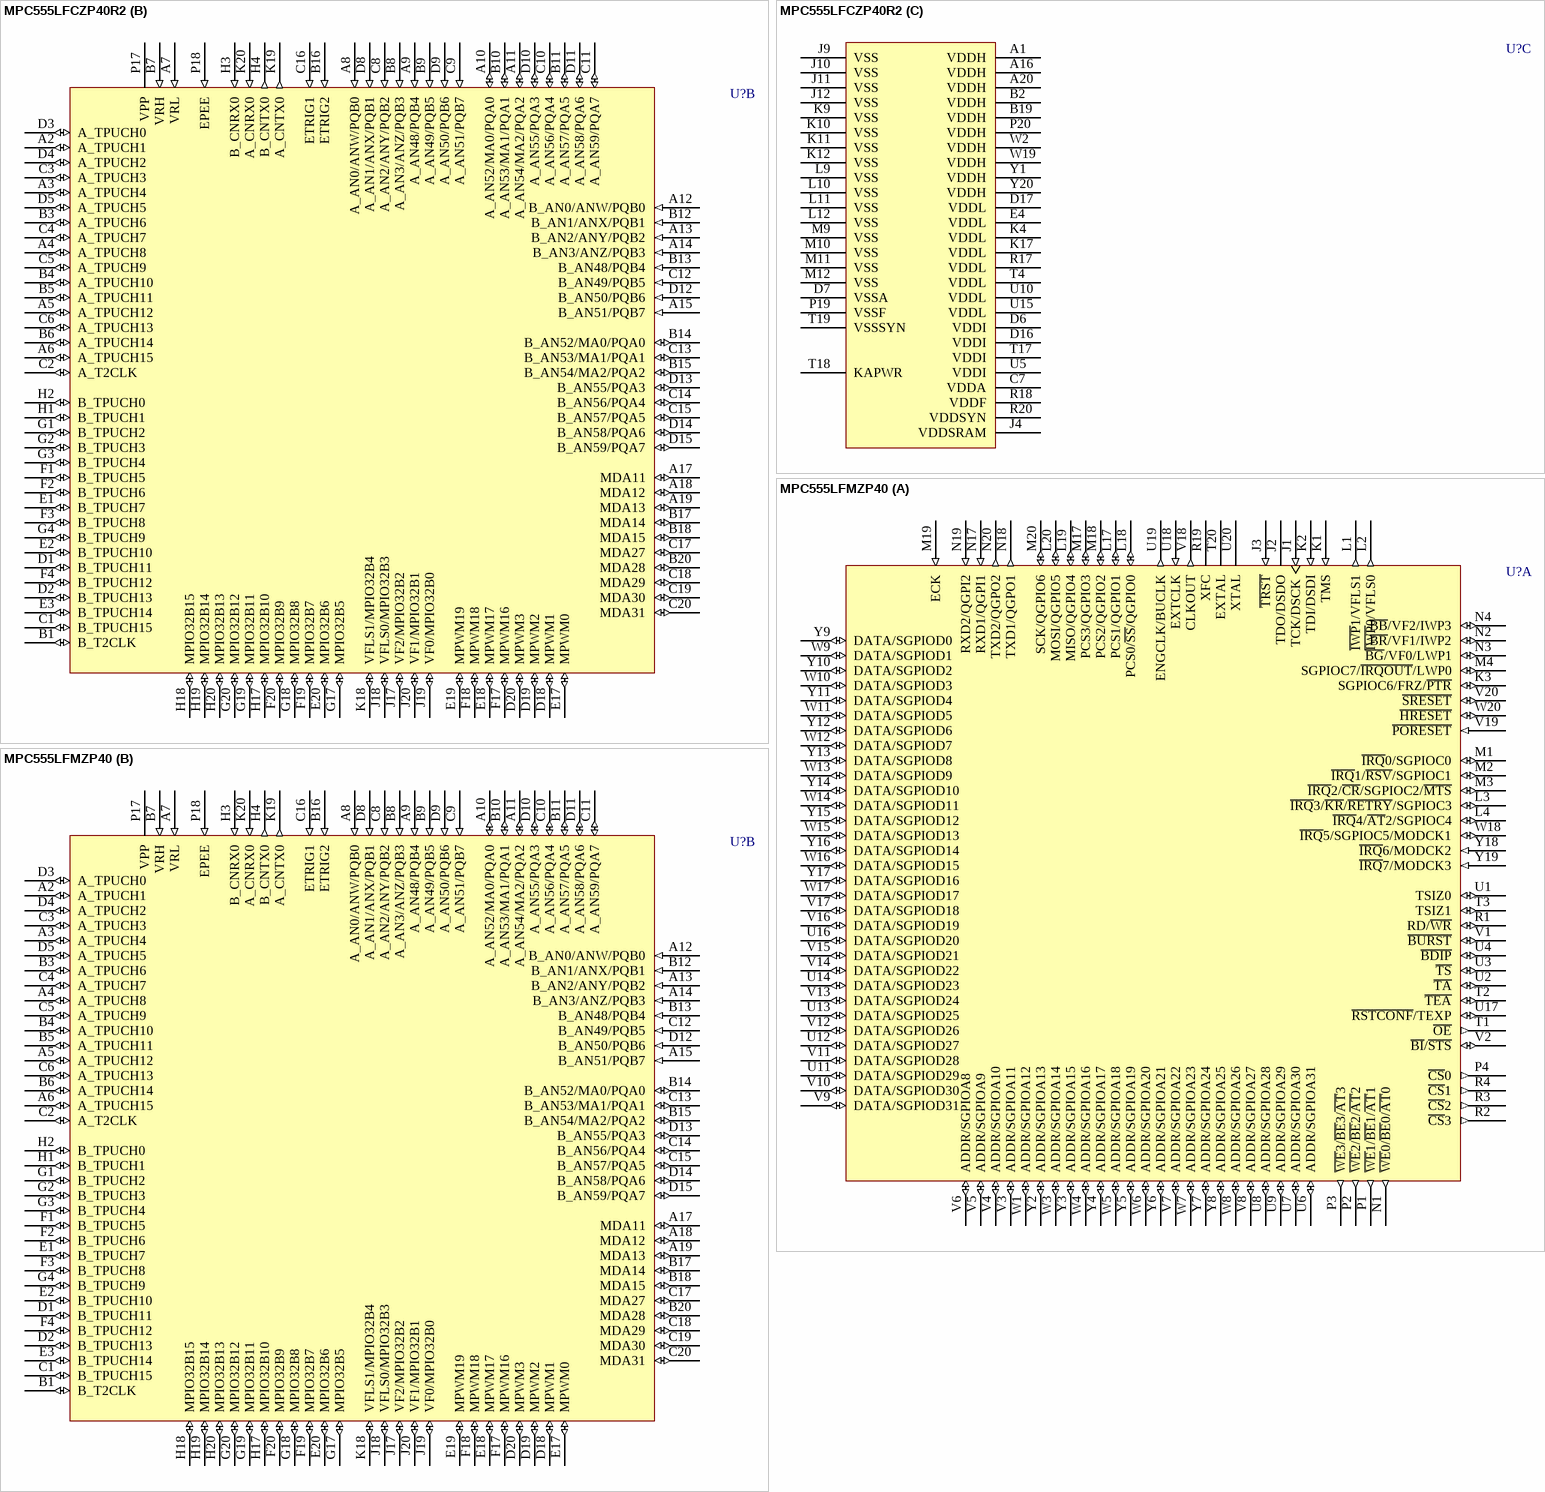
[diagram p199: symbols MPC555LFCZP40R2 to MPC555LFMZP40]

## MPC555LFCZP40R2
designator U?
32-Bit Microcontroller; Published: 21-Mar-2003; LatestRevisionDate: 13-Apr-2006; LatestRevisionNote: IPC-7351 Footprint Added.; DatasheetVersion: 15-Oct-2000; PackageVersion: Oct-2000; PackageReference: 1135A-01; Publisher: Altium Limited; PackageDescription: 272-Ball Ball Grid Array 1.27 mm Pitch; ComponentLink1Description: Manufacturer Link; ComponentLink1URL: http://www.freescale.com/
footprint 1135A-01 (BGA, 272-Leads, Body 27x27mm, Pitch 1.27mm)
3D model MPC555-1135A-01 (272-Ball Ball Grid Array 1.27 mm Pitch)
part A pins: J1 TCK/DSCK (in), J2 TDO/DSDO (hiz), J3 ~{TRST} (in), K1 TMS (in), K2 TDI/DSDI (in), K3 SGPIOC6/FRZ/~{PTR} (io), L1 ~{IWP}1/VFLS1 (out), L2 ~{IWP}0/VFLS0 (out), L3 ~{IRQ}3/~{KR}/~{RETRY}/SGPIOC3 (io), L4 ~{IRQ}4/~{AT}2/SGPIOC4 (io), L17 PCS1/QGPIO1 (io), L18 PCS0/~{SS}/QGPIO0 (io), L19 MISO/QGPIO4 (io), L20 MOSI/QGPIO5 (io), M1 ~{IRQ}0/SGPIOC0 (io), M2 ~{IRQ}1/~{RSV}/SGPIOC1 (io), M3 ~{IRQ}2/~{CR}/SGPIOC2/~{MTS} (io), M4 SGPIOC7/~{IRQOUT}/LWP0 (io), M17 PCS3/QGPIO3 (io), M18 PCS2/QGPIO2 (io), M19 ECK (in), M20 SCK/QGPIO6 (io), N1 ~{WE}0/~{BE}0/~{AT}0 (out), N2 ~{BR}/VF1/IWP2 (io), N3 ~{BG}/VF0/LWP1 (io), N4 ~{BB}/VF2/IWP3 (io), N17 RXD1/QGPI1 (in), N18 TXD1/QGPO1 (out), N19 RXD2/QGPI2 (in), N20 TXD2/QGPO2 (out), P1 ~{WE}1/~{BE}1/~{AT}1 (out), P2 ~{WE}2/~{BE}2/~{AT}2 (out), P3 ~{WE}3/~{BE}3/~{AT}3 (out), P4 ~{CS}0 (out), R1 RD/~{WR} (io), R2 ~{CS}3 (out), R3 ~{CS}2 (out), R4 ~{CS}1 (out), R19 XFC, T1 ~{OE} (out), T2 ~{TEA} (io), T3 TSIZ1 (io), T20 EXTAL, U1 TSIZ0 (io), U2 ~{TA} (io), U3 ~{TS} (io), U4 ~{BDIP} (io), U6 ADDR/SGPIOA31 (io), U7 ADDR/SGPIOA30 (io), U8 ADDR/SGPIOA28 (io), U9 ADDR/SGPIOA29 (io), U11 DATA/SGPIOD29 (io), U12 DATA/SGPIOD27 (io), U13 DATA/SGPIOD25 (io), U14 DATA/SGPIOD23 (io), U16 DATA/SGPIOD20 (io), U17 ~{RSTCONF}/TEXP (io), U18 EXTCLK (in), U19 ENGCLK/BUCLK (out), U20 XTAL, V1 ~{BURST} (io), V2 ~{BI}/~{STS} (io), V3 ADDR/SGPIOA11 (io), V4 ADDR/SGPIOA10 (io), V5 ADDR/SGPIOA9 (io), V6 ADDR/SGPIOA8 (io), V7 ADDR/SGPIOA22 (io), V8 ADDR/SGPIOA27 (io), V9 DATA/SGPIOD31 (io), V10 DATA/SGPIOD30 (io), V11 DATA/SGPIOD28 (io), V12 DATA/SGPIOD26 (io), V13 DATA/SGPIOD24 (io), V14 DATA/SGPIOD22 (io), V15 DATA/SGPIOD21 (io), V16 DATA/SGPIOD19 (io), V17 DATA/SGPIOD18 (io), V18 CLKOUT (out), V19 ~{PORESET} (in), V20 ~{SRESET} (io), W1 ADDR/SGPIOA12 (io), W3 ADDR/SGPIOA14 (io), W4 ADDR/SGPIOA16 (io), W5 ADDR/SGPIOA18 (io), W6 ADDR/SGPIOA20 (io), W7 ADDR/SGPIOA23 (io), W8 ADDR/SGPIOA26 (io), W9 DATA/SGPIOD1 (io), W10 DATA/SGPIOD3 (io), W11 DATA/SGPIOD5 (io), W12 DATA/SGPIOD7 (io), W13 DATA/SGPIOD9 (io), W14 DATA/SGPIOD11 (io), W15 DATA/SGPIOD13 (io), W16 DATA/SGPIOD15 (io), W17 DATA/SGPIOD17 (io), W18 ~{IRQ}5/SGPIOC5/MODCK1 (io), W20 ~{HRESET} (io), Y2 ADDR/SGPIOA13 (io), Y3 ADDR/SGPIOA15 (io), Y4 ADDR/SGPIOA17 (io), Y5 ADDR/SGPIOA19 (io), Y6 ADDR/SGPIOA21 (io), Y7 ADDR/SGPIOA24 (io), Y8 ADDR/SGPIOA25 (io), Y9 DATA/SGPIOD0 (io), Y10 DATA/SGPIOD2 (io), Y11 DATA/SGPIOD4 (io), Y12 DATA/SGPIOD6 (io), Y13 DATA/SGPIOD8 (io), Y14 DATA/SGPIOD10 (io), Y15 DATA/SGPIOD12 (io), Y16 DATA/SGPIOD14 (io), Y17 DATA/SGPIOD16 (io), Y18 ~{IRQ}6/MODCK2 (in), Y19 ~{IRQ}7/MODCK3 (in)
part B pins: A2 A_TPUCH1 (io), A3 A_TPUCH4 (io), A4 A_TPUCH8 (io), A5 A_TPUCH12 (io), A6 A_TPUCH15 (io), A7 VRL (in), A8 A_AN0/ANW/PQB0 (in), A9 A_AN48/PQB4 (in), A10 A_AN52/MA0/PQA0 (io), A11 A_AN54/MA2/PQA2 (io), A12 B_AN0/ANW/PQB0 (in), A13 B_AN2/ANY/PQB2 (in), A14 B_AN3/ANZ/PQB3 (in), A15 B_AN51/PQB7 (in), A17 MDA11 (io), A18 MDA12 (io), A19 MDA13 (io), B1 B_T2CLK (io), B3 A_TPUCH6 (io), B4 A_TPUCH10 (io), B5 A_TPUCH11 (io), B6 A_TPUCH14 (io), B7 VRH (in), B8 A_AN3/ANZ/PQB3 (in), B9 A_AN49/PQB5 (in), B10 A_AN53/MA1/PQA1 (io), B11 A_AN57/PQA5 (io), B12 B_AN1/ANX/PQB1 (in), B13 B_AN48/PQB4 (in), B14 B_AN52/MA0/PQA0 (io), B15 B_AN54/MA2/PQA2 (io), B16 ETRIG2 (in), B17 MDA14 (io), B18 MDA15 (io), B20 MDA28 (io), C1 B_TPUCH15 (io), C2 A_T2CLK (io), C3 A_TPUCH3 (io), C4 A_TPUCH7 (io), C5 A_TPUCH9 (io), C6 A_TPUCH13 (io), C8 A_AN2/ANY/PQB2 (in), C9 A_AN51/PQB7 (in), C10 A_AN56/PQA4 (io), C11 A_AN59/PQA7 (io), C12 B_AN49/PQB5 (in), C13 B_AN53/MA1/PQA1 (io), C14 B_AN56/PQA4 (io), C15 B_AN57/PQA5 (io), C16 ETRIG1 (in), C17 MDA27 (io), C18 MDA29 (io), C19 MDA30 (io), C20 MDA31 (io), D1 B_TPUCH11 (io), D2 B_TPUCH13 (io), D3 A_TPUCH0 (io), D4 A_TPUCH2 (io), D5 A_TPUCH5 (io), D8 A_AN1/ANX/PQB1 (in), D9 A_AN50/PQB6 (in), D10 A_AN55/PQA3 (io), D11 A_AN58/PQA6 (io), D12 B_AN50/PQB6 (in), D13 B_AN55/PQA3 (io), D14 B_AN58/PQA6 (io), D15 B_AN59/PQA7 (io), D18 MPWM1 (io), D19 MPWM2 (io), D20 MPWM3 (io), E1 B_TPUCH7 (io), E2 B_TPUCH10 (io), E3 B_TPUCH14 (io), E17 MPWM0 (io), E18 MPWM17 (io), E19 MPWM19 (io), E20 MPIO32B6 (io), F1 B_TPUCH5 (io), F2 B_TPUCH6 (io), F3 B_TPUCH8 (io), F4 B_TPUCH12 (io), F17 MPWM16 (io), F18 MPWM18 (io), F19 MPIO32B7 (io), F20 MPIO32B9 (io), G1 B_TPUCH2 (io), G2 B_TPUCH3 (io), G3 B_TPUCH4 (io), G4 B_TPUCH9 (io), G17 MPIO32B5 (io), G18 MPIO32B8 (io), G19 MPIO32B11 (io), G20 MPIO32B12 (io), H1 B_TPUCH1 (io), H2 B_TPUCH0 (io), H3 B_CNRX0 (in), H4 B_CNTX0 (out), H17 MPIO32B10 (io), H18 MPIO32B15 (io), H19 MPIO32B14 (io), H20 MPIO32B13 (io), J17 VF2/MPIO32B2 (io), J18 VFLS0/MPIO32B3 (io), J19 VF0/MPIO32B0 (io), J20 VF1/MPIO32B1 (io), K18 VFLS1/MPIO32B4 (io), K19 A_CNTX0 (out), K20 A_CNRX0 (in), P17 VPP (power), P18 EPEE (in)
part C pins: A1 VDDH (power), A16 VDDH (power), A20 VDDH (power), B2 VDDH (power), B19 VDDH (power), C7 VDDA (power), D6 VDDI (power), D7 VSSA (power), D16 VDDI (power), D17 VDDL (power), E4 VDDL (power), J4 VDDSRAM (power), J9 VSS (power), J10 VSS (power), J11 VSS (power), J12 VSS (power), K4 VDDL (power), K9 VSS (power), K10 VSS (power), K11 VSS (power), K12 VSS (power), K17 VDDL (power), L9 VSS (power), L10 VSS (power), L11 VSS (power), L12 VSS (power), M9 VSS (power), M10 VSS (power), M11 VSS (power), M12 VSS (power), P19 VSSF (power), P20 VDDH (power), R17 VDDL (power), R18 VDDF (power), R20 VDDSYN (power), T4 VDDL (power), T17 VDDI (power), T18 KAPWR (power), T19 VSSSYN (power), U5 VDDI (power), U10 VDDL (power), U15 VDDL (power), W2 VDDH (power), W19 VDDH (power), Y1 VDDH (power), Y20 VDDH (power)

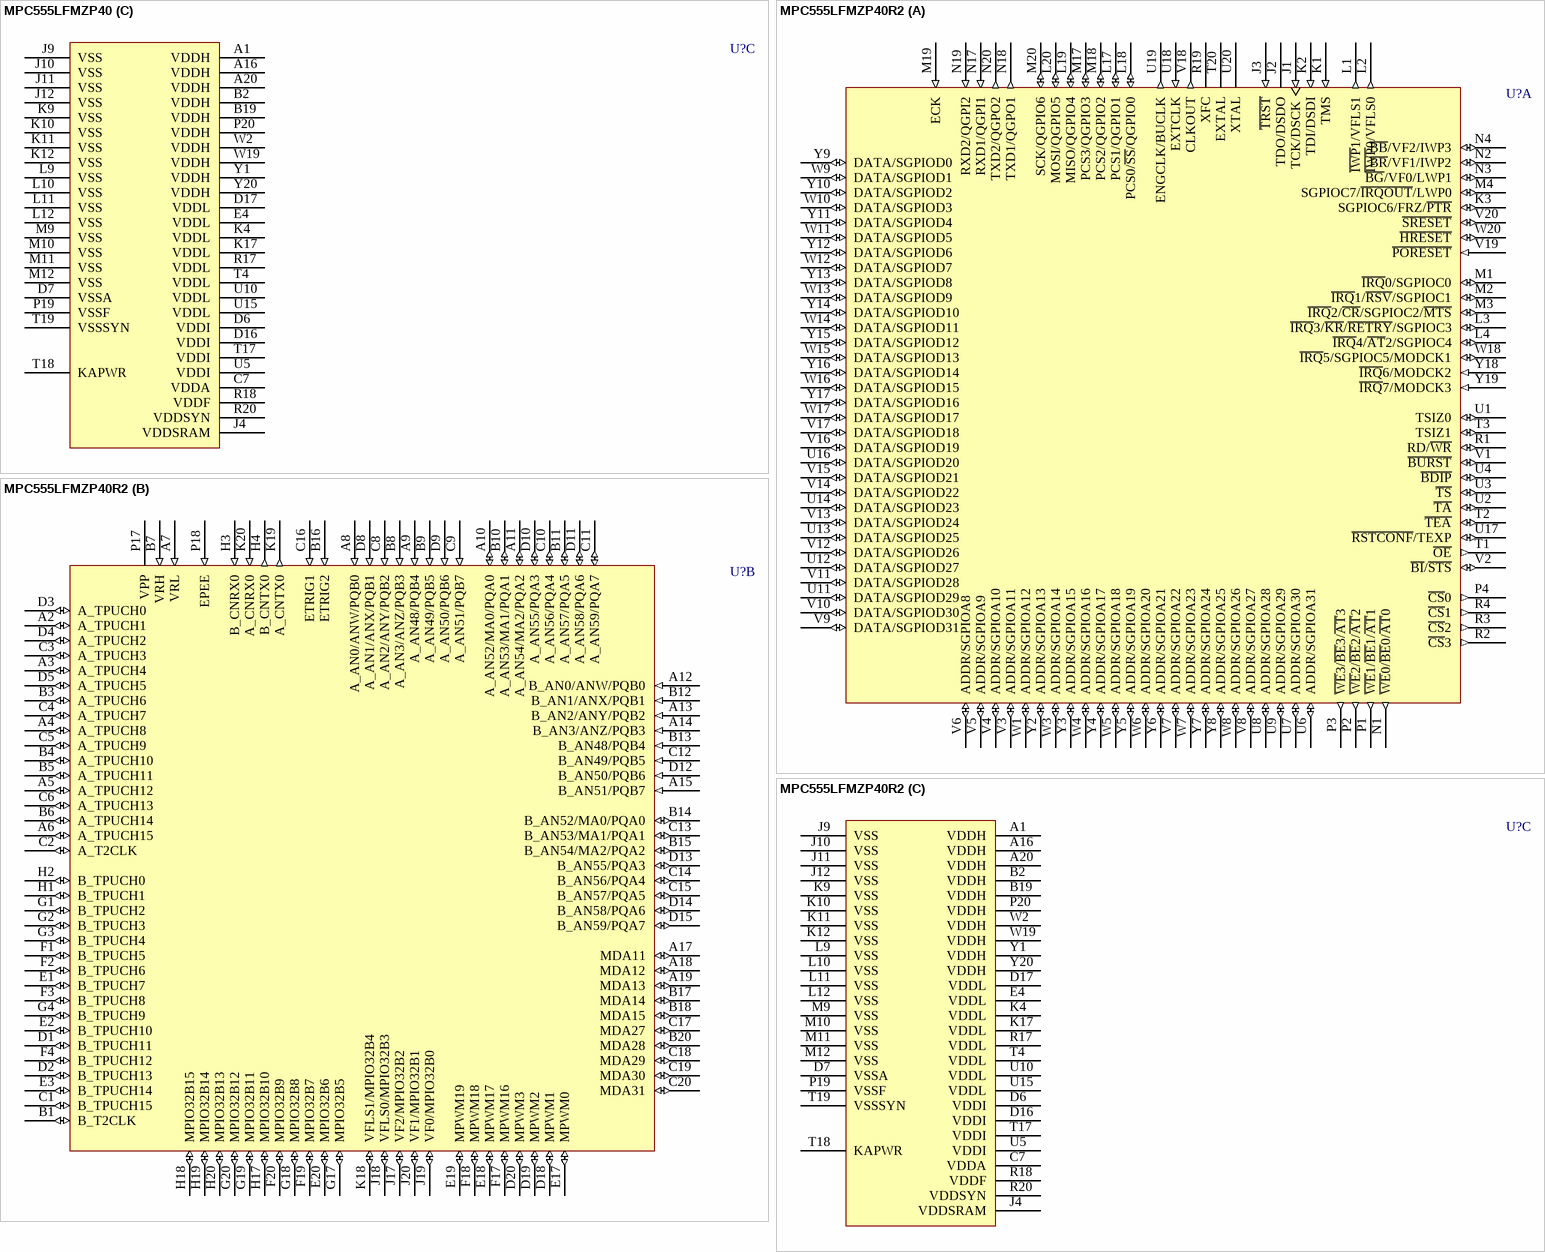
[diagram p200: symbols MPC555LFMZP40 to MPC555LFMZP40R2]

## MPC555LFMZP40
designator U?
32-Bit Microcontroller; Published: 21-Mar-2003; LatestRevisionDate: 13-Apr-2006; LatestRevisionNote: IPC-7351 Footprint Added.; DatasheetVersion: 15-Oct-2000; PackageVersion: Oct-2000; PackageReference: 1135A-01; Publisher: Altium Limited; PackageDescription: 272-Ball Ball Grid Array 1.27 mm Pitch; ComponentLink1Description: Manufacturer Link; ComponentLink1URL: http://www.freescale.com/
footprint 1135A-01 (BGA, 272-Leads, Body 27x27mm, Pitch 1.27mm)
3D model MPC555-1135A-01 (272-Ball Ball Grid Array 1.27 mm Pitch)
part A pins: J1 TCK/DSCK (in), J2 TDO/DSDO (hiz), J3 ~{TRST} (in), K1 TMS (in), K2 TDI/DSDI (in), K3 SGPIOC6/FRZ/~{PTR} (io), L1 ~{IWP}1/VFLS1 (out), L2 ~{IWP}0/VFLS0 (out), L3 ~{IRQ}3/~{KR}/~{RETRY}/SGPIOC3 (io), L4 ~{IRQ}4/~{AT}2/SGPIOC4 (io), L17 PCS1/QGPIO1 (io), L18 PCS0/~{SS}/QGPIO0 (io), L19 MISO/QGPIO4 (io), L20 MOSI/QGPIO5 (io), M1 ~{IRQ}0/SGPIOC0 (io), M2 ~{IRQ}1/~{RSV}/SGPIOC1 (io), M3 ~{IRQ}2/~{CR}/SGPIOC2/~{MTS} (io), M4 SGPIOC7/~{IRQOUT}/LWP0 (io), M17 PCS3/QGPIO3 (io), M18 PCS2/QGPIO2 (io), M19 ECK (in), M20 SCK/QGPIO6 (io), N1 ~{WE}0/~{BE}0/~{AT}0 (out), N2 ~{BR}/VF1/IWP2 (io), N3 ~{BG}/VF0/LWP1 (io), N4 ~{BB}/VF2/IWP3 (io), N17 RXD1/QGPI1 (in), N18 TXD1/QGPO1 (out), N19 RXD2/QGPI2 (in), N20 TXD2/QGPO2 (out), P1 ~{WE}1/~{BE}1/~{AT}1 (out), P2 ~{WE}2/~{BE}2/~{AT}2 (out), P3 ~{WE}3/~{BE}3/~{AT}3 (out), P4 ~{CS}0 (out), R1 RD/~{WR} (io), R2 ~{CS}3 (out), R3 ~{CS}2 (out), R4 ~{CS}1 (out), R19 XFC, T1 ~{OE} (out), T2 ~{TEA} (io), T3 TSIZ1 (io), T20 EXTAL, U1 TSIZ0 (io), U2 ~{TA} (io), U3 ~{TS} (io), U4 ~{BDIP} (io), U6 ADDR/SGPIOA31 (io), U7 ADDR/SGPIOA30 (io), U8 ADDR/SGPIOA28 (io), U9 ADDR/SGPIOA29 (io), U11 DATA/SGPIOD29 (io), U12 DATA/SGPIOD27 (io), U13 DATA/SGPIOD25 (io), U14 DATA/SGPIOD23 (io), U16 DATA/SGPIOD20 (io), U17 ~{RSTCONF}/TEXP (io), U18 EXTCLK (in), U19 ENGCLK/BUCLK (out), U20 XTAL, V1 ~{BURST} (io), V2 ~{BI}/~{STS} (io), V3 ADDR/SGPIOA11 (io), V4 ADDR/SGPIOA10 (io), V5 ADDR/SGPIOA9 (io), V6 ADDR/SGPIOA8 (io), V7 ADDR/SGPIOA22 (io), V8 ADDR/SGPIOA27 (io), V9 DATA/SGPIOD31 (io), V10 DATA/SGPIOD30 (io), V11 DATA/SGPIOD28 (io), V12 DATA/SGPIOD26 (io), V13 DATA/SGPIOD24 (io), V14 DATA/SGPIOD22 (io), V15 DATA/SGPIOD21 (io), V16 DATA/SGPIOD19 (io), V17 DATA/SGPIOD18 (io), V18 CLKOUT (out), V19 ~{PORESET} (in), V20 ~{SRESET} (io), W1 ADDR/SGPIOA12 (io), W3 ADDR/SGPIOA14 (io), W4 ADDR/SGPIOA16 (io), W5 ADDR/SGPIOA18 (io), W6 ADDR/SGPIOA20 (io), W7 ADDR/SGPIOA23 (io), W8 ADDR/SGPIOA26 (io), W9 DATA/SGPIOD1 (io), W10 DATA/SGPIOD3 (io), W11 DATA/SGPIOD5 (io), W12 DATA/SGPIOD7 (io), W13 DATA/SGPIOD9 (io), W14 DATA/SGPIOD11 (io), W15 DATA/SGPIOD13 (io), W16 DATA/SGPIOD15 (io), W17 DATA/SGPIOD17 (io), W18 ~{IRQ}5/SGPIOC5/MODCK1 (io), W20 ~{HRESET} (io), Y2 ADDR/SGPIOA13 (io), Y3 ADDR/SGPIOA15 (io), Y4 ADDR/SGPIOA17 (io), Y5 ADDR/SGPIOA19 (io), Y6 ADDR/SGPIOA21 (io), Y7 ADDR/SGPIOA24 (io), Y8 ADDR/SGPIOA25 (io), Y9 DATA/SGPIOD0 (io), Y10 DATA/SGPIOD2 (io), Y11 DATA/SGPIOD4 (io), Y12 DATA/SGPIOD6 (io), Y13 DATA/SGPIOD8 (io), Y14 DATA/SGPIOD10 (io), Y15 DATA/SGPIOD12 (io), Y16 DATA/SGPIOD14 (io), Y17 DATA/SGPIOD16 (io), Y18 ~{IRQ}6/MODCK2 (in), Y19 ~{IRQ}7/MODCK3 (in)
part B pins: A2 A_TPUCH1 (io), A3 A_TPUCH4 (io), A4 A_TPUCH8 (io), A5 A_TPUCH12 (io), A6 A_TPUCH15 (io), A7 VRL (in), A8 A_AN0/ANW/PQB0 (in), A9 A_AN48/PQB4 (in), A10 A_AN52/MA0/PQA0 (io), A11 A_AN54/MA2/PQA2 (io), A12 B_AN0/ANW/PQB0 (in), A13 B_AN2/ANY/PQB2 (in), A14 B_AN3/ANZ/PQB3 (in), A15 B_AN51/PQB7 (in), A17 MDA11 (io), A18 MDA12 (io), A19 MDA13 (io), B1 B_T2CLK (io), B3 A_TPUCH6 (io), B4 A_TPUCH10 (io), B5 A_TPUCH11 (io), B6 A_TPUCH14 (io), B7 VRH (in), B8 A_AN3/ANZ/PQB3 (in), B9 A_AN49/PQB5 (in), B10 A_AN53/MA1/PQA1 (io), B11 A_AN57/PQA5 (io), B12 B_AN1/ANX/PQB1 (in), B13 B_AN48/PQB4 (in), B14 B_AN52/MA0/PQA0 (io), B15 B_AN54/MA2/PQA2 (io), B16 ETRIG2 (in), B17 MDA14 (io), B18 MDA15 (io), B20 MDA28 (io), C1 B_TPUCH15 (io), C2 A_T2CLK (io), C3 A_TPUCH3 (io), C4 A_TPUCH7 (io), C5 A_TPUCH9 (io), C6 A_TPUCH13 (io), C8 A_AN2/ANY/PQB2 (in), C9 A_AN51/PQB7 (in), C10 A_AN56/PQA4 (io), C11 A_AN59/PQA7 (io), C12 B_AN49/PQB5 (in), C13 B_AN53/MA1/PQA1 (io), C14 B_AN56/PQA4 (io), C15 B_AN57/PQA5 (io), C16 ETRIG1 (in), C17 MDA27 (io), C18 MDA29 (io), C19 MDA30 (io), C20 MDA31 (io), D1 B_TPUCH11 (io), D2 B_TPUCH13 (io), D3 A_TPUCH0 (io), D4 A_TPUCH2 (io), D5 A_TPUCH5 (io), D8 A_AN1/ANX/PQB1 (in), D9 A_AN50/PQB6 (in), D10 A_AN55/PQA3 (io), D11 A_AN58/PQA6 (io), D12 B_AN50/PQB6 (in), D13 B_AN55/PQA3 (io), D14 B_AN58/PQA6 (io), D15 B_AN59/PQA7 (io), D18 MPWM1 (io), D19 MPWM2 (io), D20 MPWM3 (io), E1 B_TPUCH7 (io), E2 B_TPUCH10 (io), E3 B_TPUCH14 (io), E17 MPWM0 (io), E18 MPWM17 (io), E19 MPWM19 (io), E20 MPIO32B6 (io), F1 B_TPUCH5 (io), F2 B_TPUCH6 (io), F3 B_TPUCH8 (io), F4 B_TPUCH12 (io), F17 MPWM16 (io), F18 MPWM18 (io), F19 MPIO32B7 (io), F20 MPIO32B9 (io), G1 B_TPUCH2 (io), G2 B_TPUCH3 (io), G3 B_TPUCH4 (io), G4 B_TPUCH9 (io), G17 MPIO32B5 (io), G18 MPIO32B8 (io), G19 MPIO32B11 (io), G20 MPIO32B12 (io), H1 B_TPUCH1 (io), H2 B_TPUCH0 (io), H3 B_CNRX0 (in), H4 B_CNTX0 (out), H17 MPIO32B10 (io), H18 MPIO32B15 (io), H19 MPIO32B14 (io), H20 MPIO32B13 (io), J17 VF2/MPIO32B2 (io), J18 VFLS0/MPIO32B3 (io), J19 VF0/MPIO32B0 (io), J20 VF1/MPIO32B1 (io), K18 VFLS1/MPIO32B4 (io), K19 A_CNTX0 (out), K20 A_CNRX0 (in), P17 VPP (power), P18 EPEE (in)
part C pins: A1 VDDH (power), A16 VDDH (power), A20 VDDH (power), B2 VDDH (power), B19 VDDH (power), C7 VDDA (power), D6 VDDI (power), D7 VSSA (power), D16 VDDI (power), D17 VDDL (power), E4 VDDL (power), J4 VDDSRAM (power), J9 VSS (power), J10 VSS (power), J11 VSS (power), J12 VSS (power), K4 VDDL (power), K9 VSS (power), K10 VSS (power), K11 VSS (power), K12 VSS (power), K17 VDDL (power), L9 VSS (power), L10 VSS (power), L11 VSS (power), L12 VSS (power), M9 VSS (power), M10 VSS (power), M11 VSS (power), M12 VSS (power), P19 VSSF (power), P20 VDDH (power), R17 VDDL (power), R18 VDDF (power), R20 VDDSYN (power), T4 VDDL (power), T17 VDDI (power), T18 KAPWR (power), T19 VSSSYN (power), U5 VDDI (power), U10 VDDL (power), U15 VDDL (power), W2 VDDH (power), W19 VDDH (power), Y1 VDDH (power), Y20 VDDH (power)

## MPC555LFMZP40R2
designator U?
32-Bit Microcontroller; Published: 21-Mar-2003; LatestRevisionDate: 13-Apr-2006; LatestRevisionNote: IPC-7351 Footprint Added.; DatasheetVersion: 15-Oct-2000; PackageVersion: Oct-2000; PackageReference: 1135A-01; Publisher: Altium Limited; PackageDescription: 272-Ball Ball Grid Array 1.27 mm Pitch; ComponentLink1Description: Manufacturer Link; ComponentLink1URL: http://www.freescale.com/
footprint 1135A-01 (BGA, 272-Leads, Body 27x27mm, Pitch 1.27mm)
3D model MPC555-1135A-01 (272-Ball Ball Grid Array 1.27 mm Pitch)
part A pins: J1 TCK/DSCK (in), J2 TDO/DSDO (hiz), J3 ~{TRST} (in), K1 TMS (in), K2 TDI/DSDI (in), K3 SGPIOC6/FRZ/~{PTR} (io), L1 ~{IWP}1/VFLS1 (out), L2 ~{IWP}0/VFLS0 (out), L3 ~{IRQ}3/~{KR}/~{RETRY}/SGPIOC3 (io), L4 ~{IRQ}4/~{AT}2/SGPIOC4 (io), L17 PCS1/QGPIO1 (io), L18 PCS0/~{SS}/QGPIO0 (io), L19 MISO/QGPIO4 (io), L20 MOSI/QGPIO5 (io), M1 ~{IRQ}0/SGPIOC0 (io), M2 ~{IRQ}1/~{RSV}/SGPIOC1 (io), M3 ~{IRQ}2/~{CR}/SGPIOC2/~{MTS} (io), M4 SGPIOC7/~{IRQOUT}/LWP0 (io), M17 PCS3/QGPIO3 (io), M18 PCS2/QGPIO2 (io), M19 ECK (in), M20 SCK/QGPIO6 (io), N1 ~{WE}0/~{BE}0/~{AT}0 (out), N2 ~{BR}/VF1/IWP2 (io), N3 ~{BG}/VF0/LWP1 (io), N4 ~{BB}/VF2/IWP3 (io), N17 RXD1/QGPI1 (in), N18 TXD1/QGPO1 (out), N19 RXD2/QGPI2 (in), N20 TXD2/QGPO2 (out), P1 ~{WE}1/~{BE}1/~{AT}1 (out), P2 ~{WE}2/~{BE}2/~{AT}2 (out), P3 ~{WE}3/~{BE}3/~{AT}3 (out), P4 ~{CS}0 (out), R1 RD/~{WR} (io), R2 ~{CS}3 (out), R3 ~{CS}2 (out), R4 ~{CS}1 (out), R19 XFC, T1 ~{OE} (out), T2 ~{TEA} (io), T3 TSIZ1 (io), T20 EXTAL, U1 TSIZ0 (io), U2 ~{TA} (io), U3 ~{TS} (io), U4 ~{BDIP} (io), U6 ADDR/SGPIOA31 (io), U7 ADDR/SGPIOA30 (io), U8 ADDR/SGPIOA28 (io), U9 ADDR/SGPIOA29 (io), U11 DATA/SGPIOD29 (io), U12 DATA/SGPIOD27 (io), U13 DATA/SGPIOD25 (io), U14 DATA/SGPIOD23 (io), U16 DATA/SGPIOD20 (io), U17 ~{RSTCONF}/TEXP (io), U18 EXTCLK (in), U19 ENGCLK/BUCLK (out), U20 XTAL, V1 ~{BURST} (io), V2 ~{BI}/~{STS} (io), V3 ADDR/SGPIOA11 (io), V4 ADDR/SGPIOA10 (io), V5 ADDR/SGPIOA9 (io), V6 ADDR/SGPIOA8 (io), V7 ADDR/SGPIOA22 (io), V8 ADDR/SGPIOA27 (io), V9 DATA/SGPIOD31 (io), V10 DATA/SGPIOD30 (io), V11 DATA/SGPIOD28 (io), V12 DATA/SGPIOD26 (io), V13 DATA/SGPIOD24 (io), V14 DATA/SGPIOD22 (io), V15 DATA/SGPIOD21 (io), V16 DATA/SGPIOD19 (io), V17 DATA/SGPIOD18 (io), V18 CLKOUT (out), V19 ~{PORESET} (in), V20 ~{SRESET} (io), W1 ADDR/SGPIOA12 (io), W3 ADDR/SGPIOA14 (io), W4 ADDR/SGPIOA16 (io), W5 ADDR/SGPIOA18 (io), W6 ADDR/SGPIOA20 (io), W7 ADDR/SGPIOA23 (io), W8 ADDR/SGPIOA26 (io), W9 DATA/SGPIOD1 (io), W10 DATA/SGPIOD3 (io), W11 DATA/SGPIOD5 (io), W12 DATA/SGPIOD7 (io), W13 DATA/SGPIOD9 (io), W14 DATA/SGPIOD11 (io), W15 DATA/SGPIOD13 (io), W16 DATA/SGPIOD15 (io), W17 DATA/SGPIOD17 (io), W18 ~{IRQ}5/SGPIOC5/MODCK1 (io), W20 ~{HRESET} (io), Y2 ADDR/SGPIOA13 (io), Y3 ADDR/SGPIOA15 (io), Y4 ADDR/SGPIOA17 (io), Y5 ADDR/SGPIOA19 (io), Y6 ADDR/SGPIOA21 (io), Y7 ADDR/SGPIOA24 (io), Y8 ADDR/SGPIOA25 (io), Y9 DATA/SGPIOD0 (io), Y10 DATA/SGPIOD2 (io), Y11 DATA/SGPIOD4 (io), Y12 DATA/SGPIOD6 (io), Y13 DATA/SGPIOD8 (io), Y14 DATA/SGPIOD10 (io), Y15 DATA/SGPIOD12 (io), Y16 DATA/SGPIOD14 (io), Y17 DATA/SGPIOD16 (io), Y18 ~{IRQ}6/MODCK2 (in), Y19 ~{IRQ}7/MODCK3 (in)
part B pins: A2 A_TPUCH1 (io), A3 A_TPUCH4 (io), A4 A_TPUCH8 (io), A5 A_TPUCH12 (io), A6 A_TPUCH15 (io), A7 VRL (in), A8 A_AN0/ANW/PQB0 (in), A9 A_AN48/PQB4 (in), A10 A_AN52/MA0/PQA0 (io), A11 A_AN54/MA2/PQA2 (io), A12 B_AN0/ANW/PQB0 (in), A13 B_AN2/ANY/PQB2 (in), A14 B_AN3/ANZ/PQB3 (in), A15 B_AN51/PQB7 (in), A17 MDA11 (io), A18 MDA12 (io), A19 MDA13 (io), B1 B_T2CLK (io), B3 A_TPUCH6 (io), B4 A_TPUCH10 (io), B5 A_TPUCH11 (io), B6 A_TPUCH14 (io), B7 VRH (in), B8 A_AN3/ANZ/PQB3 (in), B9 A_AN49/PQB5 (in), B10 A_AN53/MA1/PQA1 (io), B11 A_AN57/PQA5 (io), B12 B_AN1/ANX/PQB1 (in), B13 B_AN48/PQB4 (in), B14 B_AN52/MA0/PQA0 (io), B15 B_AN54/MA2/PQA2 (io), B16 ETRIG2 (in), B17 MDA14 (io), B18 MDA15 (io), B20 MDA28 (io), C1 B_TPUCH15 (io), C2 A_T2CLK (io), C3 A_TPUCH3 (io), C4 A_TPUCH7 (io), C5 A_TPUCH9 (io), C6 A_TPUCH13 (io), C8 A_AN2/ANY/PQB2 (in), C9 A_AN51/PQB7 (in), C10 A_AN56/PQA4 (io), C11 A_AN59/PQA7 (io), C12 B_AN49/PQB5 (in), C13 B_AN53/MA1/PQA1 (io), C14 B_AN56/PQA4 (io), C15 B_AN57/PQA5 (io), C16 ETRIG1 (in), C17 MDA27 (io), C18 MDA29 (io), C19 MDA30 (io), C20 MDA31 (io), D1 B_TPUCH11 (io), D2 B_TPUCH13 (io), D3 A_TPUCH0 (io), D4 A_TPUCH2 (io), D5 A_TPUCH5 (io), D8 A_AN1/ANX/PQB1 (in), D9 A_AN50/PQB6 (in), D10 A_AN55/PQA3 (io), D11 A_AN58/PQA6 (io), D12 B_AN50/PQB6 (in), D13 B_AN55/PQA3 (io), D14 B_AN58/PQA6 (io), D15 B_AN59/PQA7 (io), D18 MPWM1 (io), D19 MPWM2 (io), D20 MPWM3 (io), E1 B_TPUCH7 (io), E2 B_TPUCH10 (io), E3 B_TPUCH14 (io), E17 MPWM0 (io), E18 MPWM17 (io), E19 MPWM19 (io), E20 MPIO32B6 (io), F1 B_TPUCH5 (io), F2 B_TPUCH6 (io), F3 B_TPUCH8 (io), F4 B_TPUCH12 (io), F17 MPWM16 (io), F18 MPWM18 (io), F19 MPIO32B7 (io), F20 MPIO32B9 (io), G1 B_TPUCH2 (io), G2 B_TPUCH3 (io), G3 B_TPUCH4 (io), G4 B_TPUCH9 (io), G17 MPIO32B5 (io), G18 MPIO32B8 (io), G19 MPIO32B11 (io), G20 MPIO32B12 (io), H1 B_TPUCH1 (io), H2 B_TPUCH0 (io), H3 B_CNRX0 (in), H4 B_CNTX0 (out), H17 MPIO32B10 (io), H18 MPIO32B15 (io), H19 MPIO32B14 (io), H20 MPIO32B13 (io), J17 VF2/MPIO32B2 (io), J18 VFLS0/MPIO32B3 (io), J19 VF0/MPIO32B0 (io), J20 VF1/MPIO32B1 (io), K18 VFLS1/MPIO32B4 (io), K19 A_CNTX0 (out), K20 A_CNRX0 (in), P17 VPP (power), P18 EPEE (in)
part C pins: A1 VDDH (power), A16 VDDH (power), A20 VDDH (power), B2 VDDH (power), B19 VDDH (power), C7 VDDA (power), D6 VDDI (power), D7 VSSA (power), D16 VDDI (power), D17 VDDL (power), E4 VDDL (power), J4 VDDSRAM (power), J9 VSS (power), J10 VSS (power), J11 VSS (power), J12 VSS (power), K4 VDDL (power), K9 VSS (power), K10 VSS (power), K11 VSS (power), K12 VSS (power), K17 VDDL (power), L9 VSS (power), L10 VSS (power), L11 VSS (power), L12 VSS (power), M9 VSS (power), M10 VSS (power), M11 VSS (power), M12 VSS (power), P19 VSSF (power), P20 VDDH (power), R17 VDDL (power), R18 VDDF (power), R20 VDDSYN (power), T4 VDDL (power), T17 VDDI (power), T18 KAPWR (power), T19 VSSSYN (power), U5 VDDI (power), U10 VDDL (power), U15 VDDL (power), W2 VDDH (power), W19 VDDH (power), Y1 VDDH (power), Y20 VDDH (power)

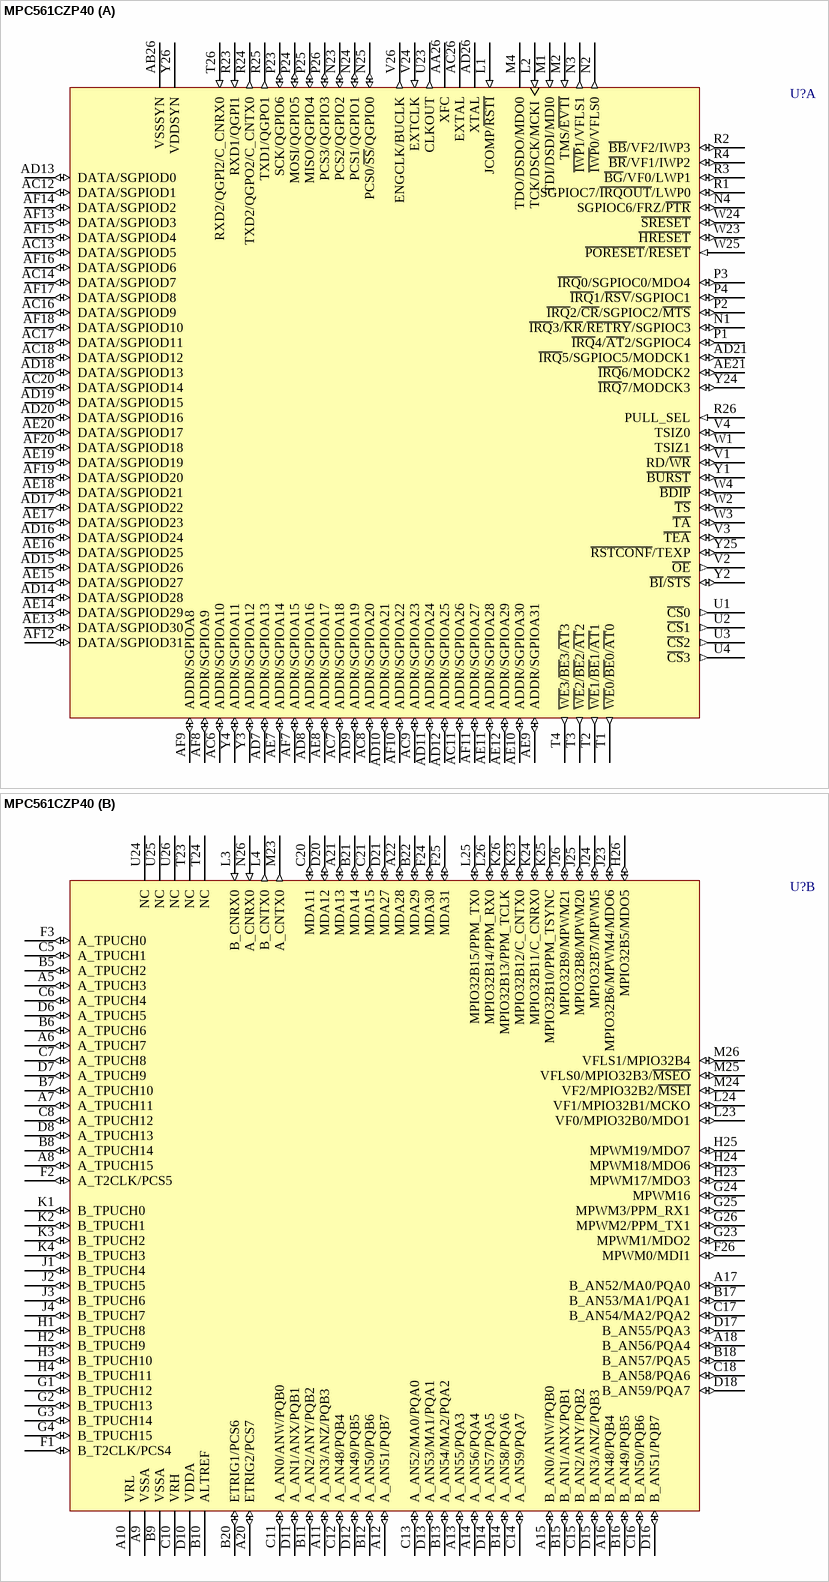
[diagram p201: symbol MPC561CZP40]

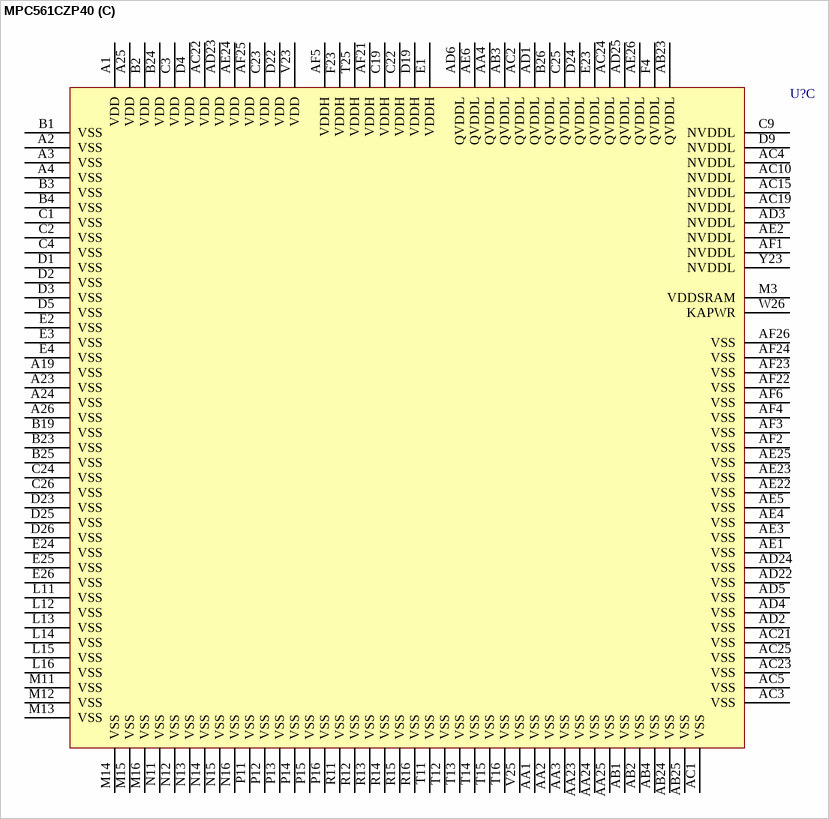
[diagram p202: symbol MPC561CZP40]

## MPC561CZP40
designator U?
32-Bit PowerPC Microcontroller; Published: 21-Mar-2003; LatestRevisionDate: 13-Apr-2006; LatestRevisionNote: IPC-7351 Footprint Added.; DatasheetVersion: 29-Jun-2001; PackageVersion: Jun-2001; PackageReference: 1164-01; Publisher: Altium Limited; PackageDescription: 388-Ball Plastic Ball Grid Array 1 mm Pitch; ComponentLink1Description: Manufacturer Link; ComponentLink1URL: http://www.freescale.com/
footprint 1164-01 (BGA, 388-Leads, Body 27x27mm, Pitch 1mm)
3D model MPC561-1164-01 (388-Ball Plastic Ball Grid Array 1 mm Pitch)
part A pins: AA26 XFC, AB26 VSSSYN (power), AC6 ADDR/SGPIOA10 (io), AC7 ADDR/SGPIOA18 (io), AC8 ADDR/SGPIOA20 (io), AC9 ADDR/SGPIOA23 (io), AC11 ADDR/SGPIOA26 (io), AC12 DATA/SGPIOD1 (io), AC13 DATA/SGPIOD5 (io), AC14 DATA/SGPIOD7 (io), AC16 DATA/SGPIOD9 (io), AC17 DATA/SGPIOD11 (io), AC18 DATA/SGPIOD12 (io), AC20 DATA/SGPIOD14 (io), AC26 EXTAL, AD7 ADDR/SGPIOA13 (io), AD8 ADDR/SGPIOA16 (io), AD9 ADDR/SGPIOA19 (io), AD10 ADDR/SGPIOA21 (io), AD11 ADDR/SGPIOA24 (io), AD12 ADDR/SGPIOA25 (io), AD13 DATA/SGPIOD0 (io), AD14 DATA/SGPIOD28 (io), AD15 DATA/SGPIOD26 (io), AD16 DATA/SGPIOD24 (io), AD17 DATA/SGPIOD22 (io), AD18 DATA/SGPIOD13 (io), AD19 DATA/SGPIOD15 (io), AD20 DATA/SGPIOD16 (io), AD21 ~{IRQ}5/SGPIOC5/MODCK1 (io), AD26 XTAL, AE7 ADDR/SGPIOA14 (io), AE8 ADDR/SGPIOA17 (io), AE9 ADDR/SGPIOA31 (io), AE10 ADDR/SGPIOA30 (io), AE11 ADDR/SGPIOA28 (io), AE12 ADDR/SGPIOA29 (io), AE13 DATA/SGPIOD30 (io), AE14 DATA/SGPIOD29 (io), AE15 DATA/SGPIOD27 (io), AE16 DATA/SGPIOD25 (io), AE17 DATA/SGPIOD23 (io), AE18 DATA/SGPIOD21 (io), AE19 DATA/SGPIOD19 (io), AE20 DATA/SGPIOD17 (io), AE21 ~{IRQ}6/MODCK2 (io), AF7 ADDR/SGPIOA15 (io), AF8 ADDR/SGPIOA9 (io), AF9 ADDR/SGPIOA8 (io), AF10 ADDR/SGPIOA22 (io), AF11 ADDR/SGPIOA27 (io), AF12 DATA/SGPIOD31 (io), AF13 DATA/SGPIOD3 (io), AF14 DATA/SGPIOD2 (io), AF15 DATA/SGPIOD4 (io), AF16 DATA/SGPIOD6 (io), AF17 DATA/SGPIOD8 (io), AF18 DATA/SGPIOD10 (io), AF19 DATA/SGPIOD20 (io), AF20 DATA/SGPIOD18 (io), L1 JCOMP/~{RSTI} (in), L2 TCK/DSCK/MCKI (in), M1 TDI/DSDI/MDI0 (in), M2 TMS/~{EVTI} (in), M4 TDO/DSDO/MDO0 (hiz), N1 ~{IRQ}3/~{KR}/~{RETRY}/SGPIOC3 (io), N2 ~{IWP}0/VFLS0 (out), N3 ~{IWP}1/VFLS1 (out), N4 SGPIOC6/FRZ/~{PTR} (io), N23 PCS2/QGPIO2 (io), N24 PCS1/QGPIO1 (io), N25 PCS0/~{SS}/QGPIO0 (io), P1 ~{IRQ}4/~{AT}2/SGPIOC4 (io), P2 ~{IRQ}2/~{CR}/SGPIOC2/~{MTS} (io), P3 ~{IRQ}0/SGPIOC0/MDO4 (io), P4 ~{IRQ}1/~{RSV}/SGPIOC1 (io), P23 SCK/QGPIO6 (io), P24 MOSI/QGPIO5 (io), P25 MISO/QGPIO4 (io), P26 PCS3/QGPIO3 (io), R1 SGPIOC7/~{IRQOUT}/LWP0 (io), R2 ~{BB}/VF2/IWP3 (io), R3 ~{BG}/VF0/LWP1 (io), R4 ~{BR}/VF1/IWP2 (io), R23 RXD1/QGPI1 (in), R24 TXD2/QGPO2/C_CNTX0 (out), R25 TXD1/QGPO1 (out), R26 PULL_SEL (in), T1 ~{WE}0/~{BE}0/~{AT}0 (out), T2 ~{WE}1/~{BE}1/~{AT}1 (out), T3 ~{WE}2/~{BE}2/~{AT}2 (out), T4 ~{WE}3/~{BE}3/~{AT}3 (out), T26 RXD2/QGPI2/C_CNRX0 (in), U1 ~{CS}0 (out), U2 ~{CS}1 (out), U3 ~{CS}2 (out), U4 ~{CS}3 (out), U23 CLKOUT (out), V1 RD/~{WR} (io), V2 ~{OE} (out), V3 ~{TEA} (io), V4 TSIZ0 (io), V24 EXTCLK (in), V26 ENGCLK/BUCLK (out), W1 TSIZ1 (io), W2 ~{TS} (io), W3 ~{TA} (io), W4 ~{BDIP} (io), W23 ~{HRESET} (io), W24 ~{SRESET} (io), W25 ~{PORESET}/~{RESET} (in), Y1 ~{BURST} (io), Y2 ~{BI}/~{STS} (io), Y3 ADDR/SGPIOA12 (io), Y4 ADDR/SGPIOA11 (io), Y24 ~{IRQ}7/MODCK3 (io), Y25 ~{RSTCONF}/TEXP (io), Y26 VDDSYN (power)
part B pins: A5 A_TPUCH3 (io), A6 A_TPUCH7 (io), A7 A_TPUCH11 (io), A8 A_TPUCH15 (io), A9 VSSA (power), A10 VRL, A11 A_AN3/ANZ/PQB3 (io), A12 A_AN51/PQB7 (io), A13 A_AN55/PQA3 (io), A14 A_AN56/PQA4 (io), A15 B_AN0/ANW/PQB0 (io), A16 B_AN48/PQB4 (io), A17 B_AN52/MA0/PQA0 (io), A18 B_AN56/PQA4 (io), A20 ETRIG2/PCS7 (io), A21 MDA13 (io), A22 MDA28 (io), B5 A_TPUCH2 (io), B6 A_TPUCH6 (io), B7 A_TPUCH10 (io), B8 A_TPUCH14 (io), B9 VSSA (power), B10 ALTREF, B11 A_AN2/ANY/PQB2 (io), B12 A_AN50/PQB6 (io), B13 A_AN54/MA2/PQA2 (io), B14 A_AN58/PQA6 (io), B15 B_AN1/ANX/PQB1 (io), B16 B_AN49/PQB5 (io), B17 B_AN53/MA1/PQA1 (io), B18 B_AN57/PQA5 (io), B20 ETRIG1/PCS6 (io), B21 MDA14 (io), B22 MDA29 (io), C5 A_TPUCH1 (io), C6 A_TPUCH4 (io), C7 A_TPUCH8 (io), C8 A_TPUCH12 (io), C10 VRH, C11 A_AN0/ANW/PQB0 (io), C12 A_AN48/PQB4 (io), C13 A_AN52/MA0/PQA0 (io), C14 A_AN59/PQA7 (io), C15 B_AN2/ANY/PQB2 (io), C16 B_AN50/PQB6 (io), C17 B_AN54/MA2/PQA2 (io), C18 B_AN58/PQA6 (io), C20 MDA11 (io), C21 MDA15 (io), D6 A_TPUCH5 (io), D7 A_TPUCH9 (io), D8 A_TPUCH13 (io), D10 VDDA (power), D11 A_AN1/ANX/PQB1 (io), D12 A_AN49/PQB5 (io), D13 A_AN53/MA1/PQA1 (io), D14 A_AN57/PQA5 (io), D15 B_AN3/ANZ/PQB3 (io), D16 B_AN51/PQB7 (io), D17 B_AN55/PQA3 (io), D18 B_AN59/PQA7 (io), D20 MDA12 (io), D21 MDA27 (io), F1 B_T2CLK/PCS4 (io), F2 A_T2CLK/PCS5 (io), F3 A_TPUCH0 (io), F24 MDA30 (io), F25 MDA31 (io), F26 MPWM0/MDI1 (io), G1 B_TPUCH12 (io), G2 B_TPUCH13 (io), G3 B_TPUCH14 (io), G4 B_TPUCH15 (io), G23 MPWM1/MDO2 (io), G24 MPWM16 (io), G25 MPWM3/PPM_RX1 (io), G26 MPWM2/PPM_TX1 (io), H1 B_TPUCH8 (io), H2 B_TPUCH9 (io), H3 B_TPUCH10 (io), H4 B_TPUCH11 (io), H23 MPWM17/MDO3 (io), H24 MPWM18/MDO6 (io), H25 MPWM19/MDO7 (io), H26 MPIO32B5/MDO5 (io), J1 B_TPUCH4 (io), J2 B_TPUCH5 (io), J3 B_TPUCH6 (io), J4 B_TPUCH7 (io), J23 MPIO32B6/MPWM4/MDO6 (io), J24 MPIO32B7/MPWM5 (io), J25 MPIO32B8/MPWM20 (io), J26 MPIO32B9/MPWM21 (io), K1 B_TPUCH0 (io), K2 B_TPUCH1 (io), K3 B_TPUCH2 (io), K4 B_TPUCH3 (io), K23 MPIO32B12/C_CNTX0 (io), K24 MPIO32B11/C_CNRX0 (io), K25 MPIO32B10/PPM_TSYNC (io), K26 MPIO32B13/PPM_TCLK (io), L3 B_CNRX0 (in), L4 B_CNTX0 (out), L23 VF0/MPIO32B0/MDO1 (io), L24 VF1/MPIO32B1/MCKO (io), L25 MPIO32B15/PPM_TX0 (io), L26 MPIO32B14/PPM_RX0 (io), M23 A_CNTX0 (out), M24 VF2/MPIO32B2/~{MSEI} (io), M25 VFLS0/MPIO32B3/~{MSEO} (io), M26 VFLS1/MPIO32B4 (io), N26 A_CNRX0 (in), T23 NC, T24 NC, U24 NC, U25 NC, U26 NC
part C pins: A1 VDD (power), A2 VSS (power), A3 VSS (power), A4 VSS (power), A19 VSS (power), A23 VSS (power), A24 VSS (power), A25 VDD (power), A26 VSS (power), AA1 VSS (power), AA2 VSS (power), AA3 VSS (power), AA4 QVDDL (power), AA23 VSS (power), AA24 VSS (power), AA25 VSS (power), AB1 VSS (power), AB2 VSS (power), AB3 QVDDL (power), AB4 VSS (power), AB23 QVDDL (power), AB24 VSS (power), AB25 VSS (power), AC1 VSS (power), AC2 QVDDL (power), AC3 VSS (power), AC4 NVDDL (power), AC5 VSS (power), AC10 NVDDL (power), AC15 NVDDL (power), AC19 NVDDL (power), AC21 VSS (power), AC22 VDD (power), AC23 VSS (power), AC24 QVDDL (power), AC25 VSS (power), AD1 QVDDL (power), AD2 VSS (power), AD3 NVDDL (power), AD4 VSS (power), AD5 VSS (power), AD6 QVDDL (power), AD22 VSS (power), AD23 VDD (power), AD24 VSS (power), AD25 QVDDL (power), AE1 VSS (power), AE2 NVDDL (power), AE3 VSS (power), AE4 VSS (power), AE5 VSS (power), AE6 QVDDL (power), AE22 VSS (power), AE23 VSS (power), AE24 VDD (power), AE25 VSS (power), AE26 QVDDL (power), AF1 NVDDL (power), AF2 VSS (power), AF3 VSS (power), AF4 VSS (power), AF5 VDDH (power), AF6 VSS (power), AF21 VDDH (power), AF22 VSS (power), AF23 VSS (power), AF24 VSS (power), AF25 VDD (power), AF26 VSS (power), B1 VSS (power), B2 VDD (power), B3 VSS (power), B4 VSS (power), B19 VSS (power), B23 VSS (power), B24 VDD (power), B25 VSS (power), B26 QVDDL (power), C1 VSS (power), C2 VSS (power), C3 VDD (power), C4 VSS (power), C9 NVDDL (power), C19 VDDH (power), C22 VDDH (power), C23 VDD (power), C24 VSS (power), C25 QVDDL (power), C26 VSS (power), D1 VSS (power), D2 VSS (power), D3 VSS (power), D4 VDD (power), D5 VSS (power), D9 NVDDL (power), D19 VDDH (power), D22 VDD (power), D23 VSS (power), D24 QVDDL (power), D25 VSS (power), D26 VSS (power), E1 VDDH (power), E2 VSS (power), E3 VSS (power), E4 VSS (power), E23 QVDDL (power), E24 VSS (power), E25 VSS (power), E26 VSS (power), F4 QVDDL (power), F23 VDDH (power), L11 VSS (power), L12 VSS (power), L13 VSS (power), L14 VSS (power), L15 VSS (power), L16 VSS (power), M3 VDDSRAM (power), M11 VSS (power), M12 VSS (power), M13 VSS (power), M14 VSS (power), M15 VSS (power), M16 VSS (power), N11 VSS (power), N12 VSS (power), N13 VSS (power), N14 VSS (power), N15 VSS (power), N16 VSS (power), P11 VSS (power), P12 VSS (power), P13 VSS (power), P14 VSS (power), P15 VSS (power), P16 VSS (power), R11 VSS (power), R12 VSS (power), R13 VSS (power), R14 VSS (power), R15 VSS (power), R16 VSS (power), T11 VSS (power), T12 VSS (power), T13 VSS (power), T14 VSS (power), T15 VSS (power), T16 VSS (power), T25 VDDH (power), V23 VDD (power), V25 VSS (power), W26 KAPWR (power), Y23 NVDDL (power)

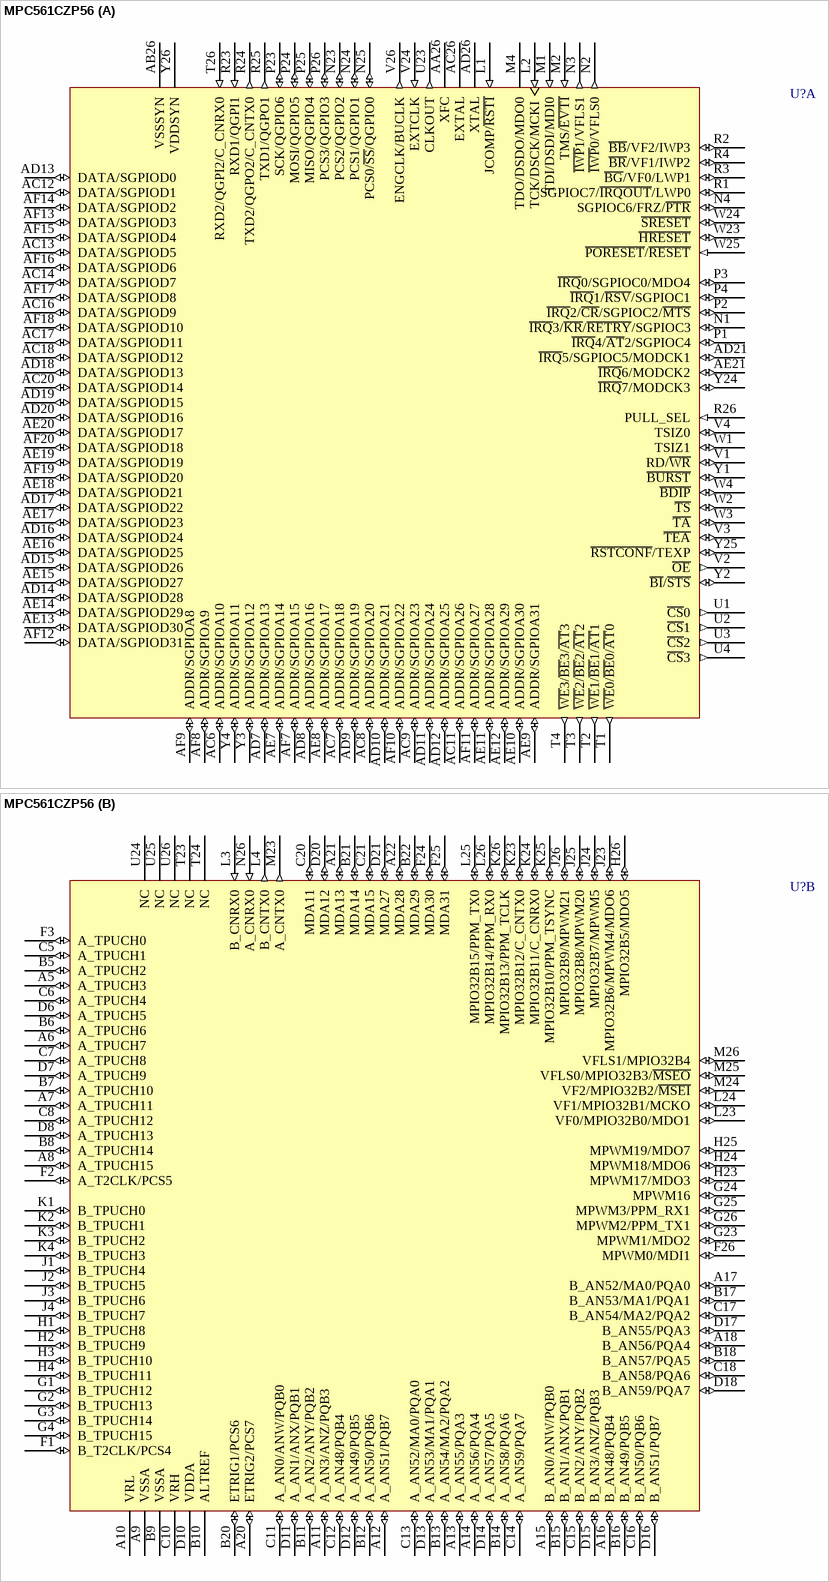
[diagram p203: symbol MPC561CZP56]

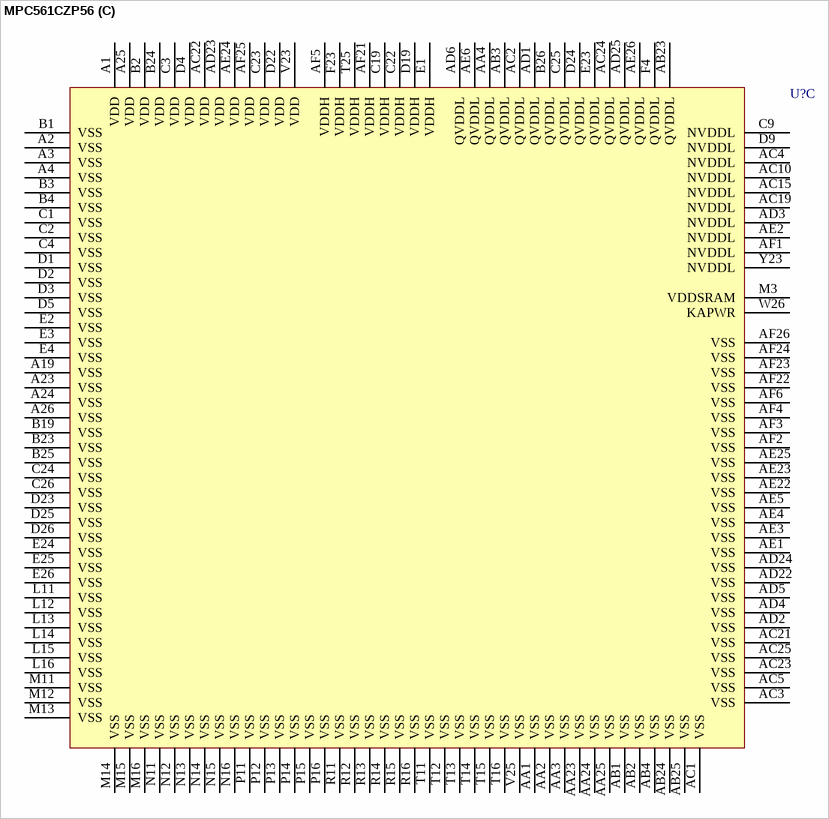
[diagram p204: symbol MPC561CZP56]